# Altium integrated library Protel DOS Schematic Libraries.IntLib: 1273 symbols (part 7 of 9)
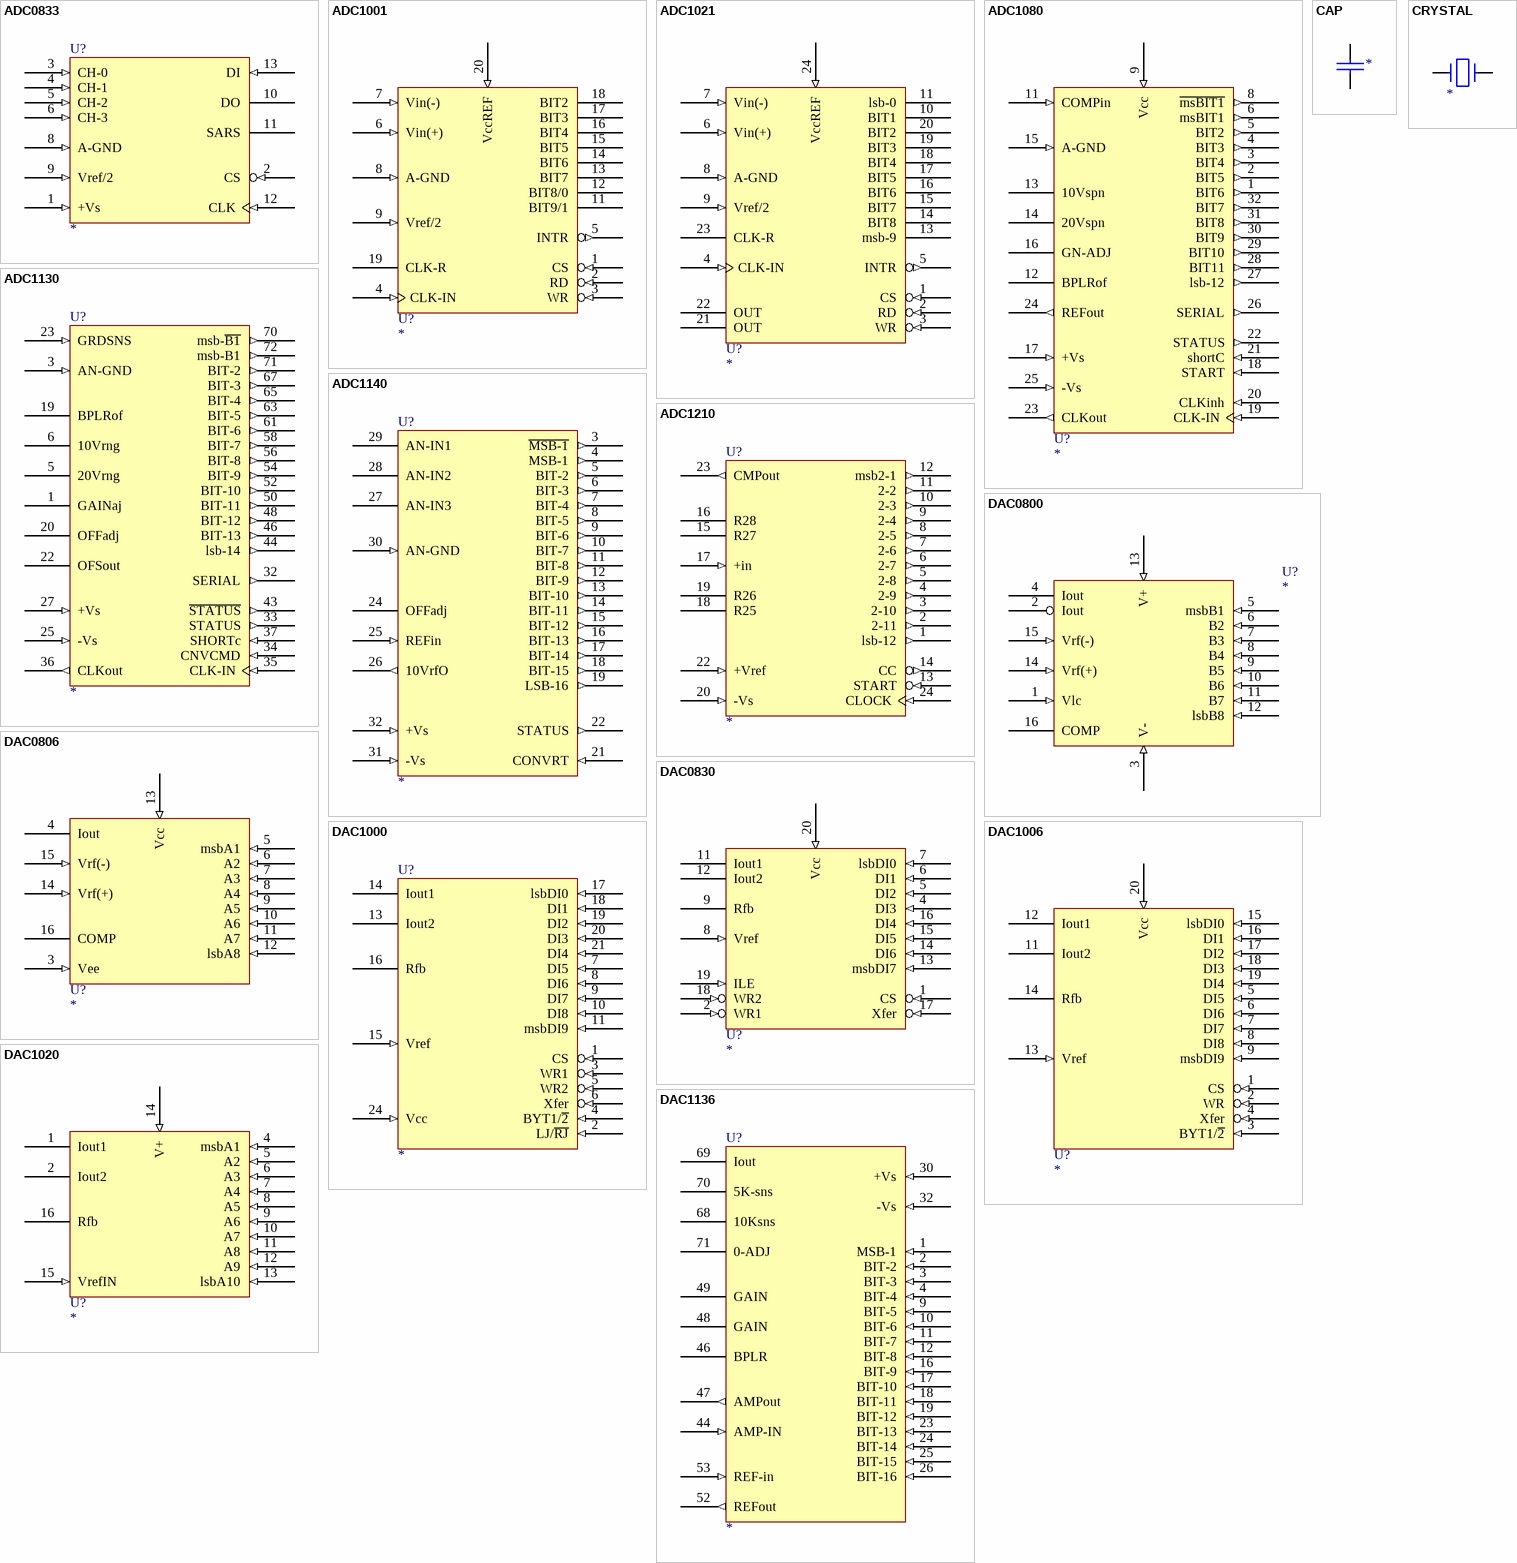
[diagram p75: symbols ADC0833 to DAC1136]

## DAC0830
designator U?
footprint DIP-20
pins: 1 CS (in), 2 WR1 (in), 3 GND (power) hidden to GND, 4 DI3 (in), 5 DI2 (in), 6 DI1 (in), 7 lsbDI0 (in), 8 Vref (in), 9 Rfb, 10 GND (power) hidden to GND, 11 Iout1, 12 Iout2, 13 msbDI7 (in), 14 DI6 (in), 15 DI5 (in), 16 DI4 (in), 17 Xfer (in), 18 WR2 (in), 19 ILE (in), 20 Vcc (in)

## DAC1000
designator U?
footprint DIP-24
pins: 1 CS (in), 2 LJ/~{RJ} (in), 3 WR1 (in), 4 BYT1/~{2} (in), 5 WR2 (in), 6 Xfer (in), 7 DI5 (in), 8 DI6 (in), 9 DI7 (in), 10 DI8 (in), 11 msbDI9 (in), 12 GND (power) hidden to GND, 13 Iout2, 14 Iout1, 15 Vref (in), 16 Rfb, 17 lsbDI0 (in), 18 DI1 (in), 19 DI2 (in), 20 DI3 (in), 21 DI4 (in), 24 Vcc (in)

## DAC1006
designator U?
footprint DIP-20
pins: 1 CS (in), 2 WR (in), 3 BYT1/~{2} (in), 4 Xfer (in), 5 DI5 (in), 6 DI6 (in), 7 DI7 (in), 8 DI8 (in), 9 msbDI9 (in), 10 GND (power) hidden to GND, 11 Iout2, 12 Iout1, 13 Vref (in), 14 Rfb, 15 lsbDI0 (in), 16 DI1 (in), 17 DI2 (in), 18 DI3 (in), 19 DI4 (in), 20 Vcc (in)

## DAC1020
designator U?
footprint DIP-16
pins: 1 Iout1, 2 Iout2, 3 GND (power) hidden to GND, 4 msbA1 (in), 5 A2 (in), 6 A3 (in), 7 A4 (in), 8 A5 (in), 9 A6 (in), 10 A7 (in), 11 A8 (in), 12 A9 (in), 13 lsbA10 (in), 14 V+ (in), 15 VrefIN (in), 16 Rfb

## DAC1136
designator U?
footprint CARD71
pins: 1 MSB-1 (in), 2 BIT-2 (in), 3 BIT-3 (in), 4 BIT-4 (in), 9 BIT-5 (in), 10 BIT-6 (in), 11 BIT-7 (in), 12 BIT-8 (in), 16 BIT-9 (in), 17 BIT-10 (in), 18 BIT-11 (in), 19 BIT-12 (in), 23 BIT-13 (in), 24 BIT-14 (in), 25 BIT-15 (in), 26 BIT-16 (in), 28 VCC (power) hidden to VCC, 30 +Vs (in), 32 -Vs (in), 34 GND (power) hidden to GND, 44 AMP-IN (in), 46 BPLR, 47 AMPout (out), 48 GAIN, 49 GAIN, 52 REFout (out), 53 REF-in (in), 68 10Ksns, 69 Iout, 70 5K-sns, 71 0-ADJ

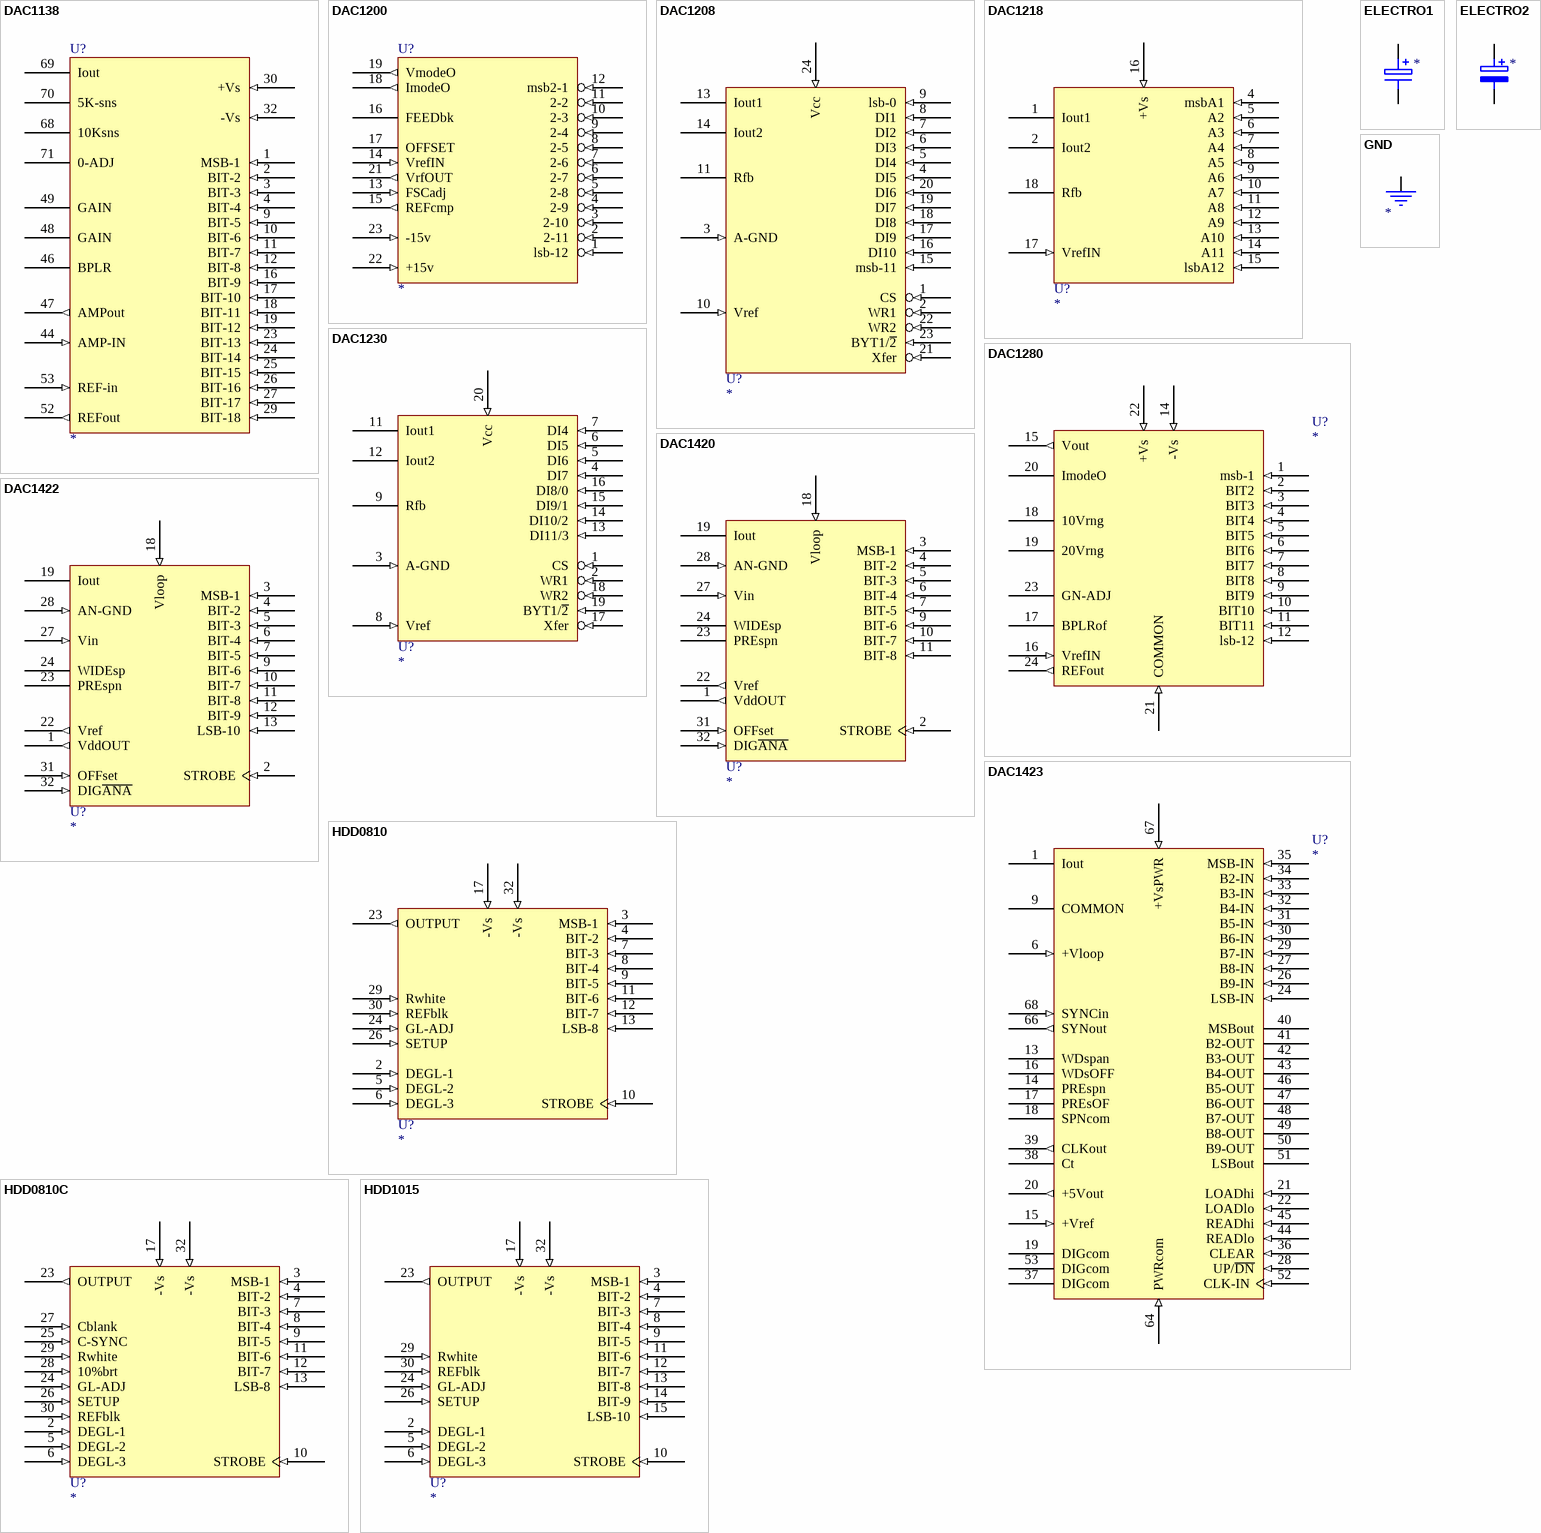
[diagram p47: symbols DAC1138 to HDD1015]

## DAC1138
designator U?
footprint CARD71
pins: 1 MSB-1 (in), 2 BIT-2 (in), 3 BIT-3 (in), 4 BIT-4 (in), 9 BIT-5 (in), 10 BIT-6 (in), 11 BIT-7 (in), 12 BIT-8 (in), 16 BIT-9 (in), 17 BIT-10 (in), 18 BIT-11 (in), 19 BIT-12 (in), 23 BIT-13 (in), 24 BIT-14 (in), 25 BIT-15 (in), 26 BIT-16 (in), 27 BIT-17 (in), 28 VCC (power) hidden to VCC, 29 BIT-18 (in), 30 +Vs (in), 32 -Vs (in), 34 GND (power) hidden to GND, 44 AMP-IN (in), 46 BPLR, 47 AMPout (out), 48 GAIN, 49 GAIN, 52 REFout (out), 53 REF-in (in), 68 10Ksns, 69 Iout, 70 5K-sns, 71 0-ADJ

## DAC1200
designator U?
footprint DIP-24
pins: 1 lsb-12 (in), 2 2-11 (in), 3 2-10 (in), 4 2-9 (in), 5 2-8 (in), 6 2-7 (in), 7 2-6 (in), 8 2-5 (in), 9 2-4 (in), 10 2-3 (in), 11 2-2 (in), 12 msb2-1 (in), 13 FSCadj (in), 14 VrefIN (in), 15 REFcmp (out), 16 FEEDbk, 17 OFFSET, 18 ImodeO (out), 19 VmodeO (out), 20 VCC (power) hidden to VCC, 21 VrfOUT (out), 22 +15v (in), 23 -15v (in), 24 GND (power) hidden to GND

## DAC1208
designator U?
footprint DIP-24
pins: 1 CS (in), 2 WR1 (in), 3 A-GND (in), 4 DI5 (in), 5 DI4 (in), 6 DI3 (in), 7 DI2 (in), 8 DI1 (in), 9 lsb-0 (in), 10 Vref (in), 11 Rfb, 12 GND (power) hidden to GND, 13 Iout1, 14 Iout2, 15 msb-11 (in), 16 DI10 (in), 17 DI9 (in), 18 DI8 (in), 19 DI7 (in), 20 DI6 (in), 21 Xfer (in), 22 WR2 (in), 23 BYT1/~{2} (in), 24 Vcc (in)

## DAC1218
designator U?
footprint DIP-18
pins: 1 Iout1, 2 Iout2, 3 GND (power) hidden to GND, 4 msbA1 (in), 5 A2 (in), 6 A3 (in), 7 A4 (in), 8 A5 (in), 9 A6 (in), 10 A7 (in), 11 A8 (in), 12 A9 (in), 13 A10 (in), 14 A11 (in), 15 lsbA12 (in), 16 +Vs (in), 17 VrefIN (in), 18 Rfb

## DAC1230
designator U?
footprint DIP-20
pins: 1 CS (in), 2 WR1 (in), 3 A-GND (in), 4 DI7 (in), 5 DI6 (in), 6 DI5 (in), 7 DI4 (in), 8 Vref (in), 9 Rfb, 10 GND (power) hidden to GND, 11 Iout1, 12 Iout2, 13 DI11/3 (in), 14 DI10/2 (in), 15 DI9/1 (in), 16 DI8/0 (in), 17 Xfer (in), 18 WR2 (in), 19 BYT1/~{2} (in), 20 Vcc (in)

## DAC1280
designator U?
footprint DIP-24
pins: 1 msb-1 (in), 2 BIT2 (in), 3 BIT3 (in), 4 BIT4 (in), 5 BIT5 (in), 6 BIT6 (in), 7 BIT7 (in), 8 BIT8 (in), 9 BIT9 (in), 10 BIT10 (in), 11 BIT11 (in), 12 lsb-12 (in), 14 -Vs (in), 15 Vout (out), 16 VrefIN (in), 17 BPLRof, 18 10Vrng, 19 20Vrng, 20 ImodeO, 21 COMMON (in), 22 +Vs (in), 23 GN-ADJ, 24 REFout (out)

## DAC1420
designator U?
footprint HYB32
pins: 1 VddOUT (out), 2 STROBE (in), 3 MSB-1 (in), 4 BIT-2 (in), 5 BIT-3 (in), 6 BIT-4 (in), 7 BIT-5 (in), 9 BIT-6 (in), 10 BIT-7 (in), 11 BIT-8 (in), 16 GND (power) hidden to GND, 18 Vloop (in), 19 Iout, 22 Vref (out), 23 PREspn, 24 WIDEsp, 27 Vin (in), 28 AN-GND (in), 31 OFFset (in), 32 DIG~{ANA} (in)

## DAC1422
designator U?
footprint HYB32
pins: 1 VddOUT (out), 2 STROBE (in), 3 MSB-1 (in), 4 BIT-2 (in), 5 BIT-3 (in), 6 BIT-4 (in), 7 BIT-5 (in), 9 BIT-6 (in), 10 BIT-7 (in), 11 BIT-8 (in), 12 BIT-9 (in), 13 LSB-10 (in), 16 GND (power) hidden to GND, 18 Vloop (in), 19 Iout, 22 Vref (out), 23 PREspn, 24 WIDEsp, 27 Vin (in), 28 AN-GND (in), 31 OFFset (in), 32 DIG~{ANA} (in)

## DAC1423
designator U?
footprint HYB72
pins: 1 Iout, 6 +Vloop (in), 9 COMMON, 13 WDspan, 14 PREspn, 15 +Vref (in), 16 WDsOFF, 17 PREsOF, 18 SPNcom, 19 DIGcom, 20 +5Vout (out), 21 LOADhi (in), 22 LOADlo (in), 24 LSB-IN (in), 26 B9-IN (in), 27 B8-IN (in), 28 UP/~{DN} (in), 29 B7-IN (in), 30 B6-IN (in), 31 B5-IN (in), 32 B4-IN (in), 33 B3-IN (in), 34 B2-IN (in), 35 MSB-IN (in), 36 CLEAR (in), 37 DIGcom, 38 Ct, 39 CLKout (out), 40 MSBout (hiz), 41 B2-OUT (hiz), 42 B3-OUT (hiz), 43 B4-OUT (hiz), 44 READlo (in), 45 READhi (in), 46 B5-OUT (hiz), 47 B6-OUT (hiz), 48 B7-OUT (hiz), 49 B8-OUT (hiz), 50 B9-OUT (hiz), 51 LSBout (hiz), 52 CLK-IN (in), 53 DIGcom, 64 PWRcom (in), 66 SYNout (out), 67 +VsPWR (in), 68 SYNCin (in)

## ELECTRO1
designator ?
pins: 1, 2

## ELECTRO2
designator ?
pins: 1, 2

## GND
designator ?
pins: 1 (power)

## HDD0810
designator U?
footprint DIP-32
pins: 1 GND (power) hidden to GND, 2 DEGL-1 (in), 3 MSB-1 (in), 4 BIT-2 (in), 5 DEGL-2 (in), 6 DEGL-3 (in), 7 BIT-3 (in), 8 BIT-4 (in), 9 BIT-5 (in), 10 STROBE (in), 11 BIT-6 (in), 12 BIT-7 (in), 13 LSB-8 (in), 16 GND (power) hidden to GND, 17 -Vs (in), 18 GND (power) hidden to GND, 19 GND (power) hidden to GND, 20 GND (power) hidden to GND, 21 GND (power) hidden to GND, 22 GND (power) hidden to GND, 23 OUTPUT (out), 24 GL-ADJ (in), 26 SETUP (in), 29 Rwhite (in), 30 REFblk (in), 31 GND (power) hidden to GND, 32 -Vs (in)

## HDD0810C
designator U?
footprint DIP-32
pins: 1 GND (power) hidden to GND, 2 DEGL-1 (in), 3 MSB-1 (in), 4 BIT-2 (in), 5 DEGL-2 (in), 6 DEGL-3 (in), 7 BIT-3 (in), 8 BIT-4 (in), 9 BIT-5 (in), 10 STROBE (in), 11 BIT-6 (in), 12 BIT-7 (in), 13 LSB-8 (in), 16 GND (power) hidden to GND, 17 -Vs (in), 18 GND (power) hidden to GND, 19 GND (power) hidden to GND, 20 GND (power) hidden to GND, 21 GND (power) hidden to GND, 22 GND (power) hidden to GND, 23 OUTPUT (out), 24 GL-ADJ (in), 25 C-SYNC (in), 26 SETUP (in), 27 Cblank (in), 28 10%brt (in), 29 Rwhite (in), 30 REFblk (in), 31 GND (power) hidden to GND, 32 -Vs (in)

## HDD1015
designator U?
footprint DIP-32
pins: 1 GND (power) hidden to GND, 2 DEGL-1 (in), 3 MSB-1 (in), 4 BIT-2 (in), 5 DEGL-2 (in), 6 DEGL-3 (in), 7 BIT-3 (in), 8 BIT-4 (in), 9 BIT-5 (in), 10 STROBE (in), 11 BIT-6 (in), 12 BIT-7 (in), 13 BIT-8 (in), 14 BIT-9 (in), 15 LSB-10 (in), 16 GND (power) hidden to GND, 17 -Vs (in), 18 GND (power) hidden to GND, 19 GND (power) hidden to GND, 20 GND (power) hidden to GND, 21 GND (power) hidden to GND, 22 GND (power) hidden to GND, 23 OUTPUT (out), 24 GL-ADJ (in), 26 SETUP (in), 29 Rwhite (in), 30 REFblk (in), 31 GND (power) hidden to GND, 32 -Vs (in)

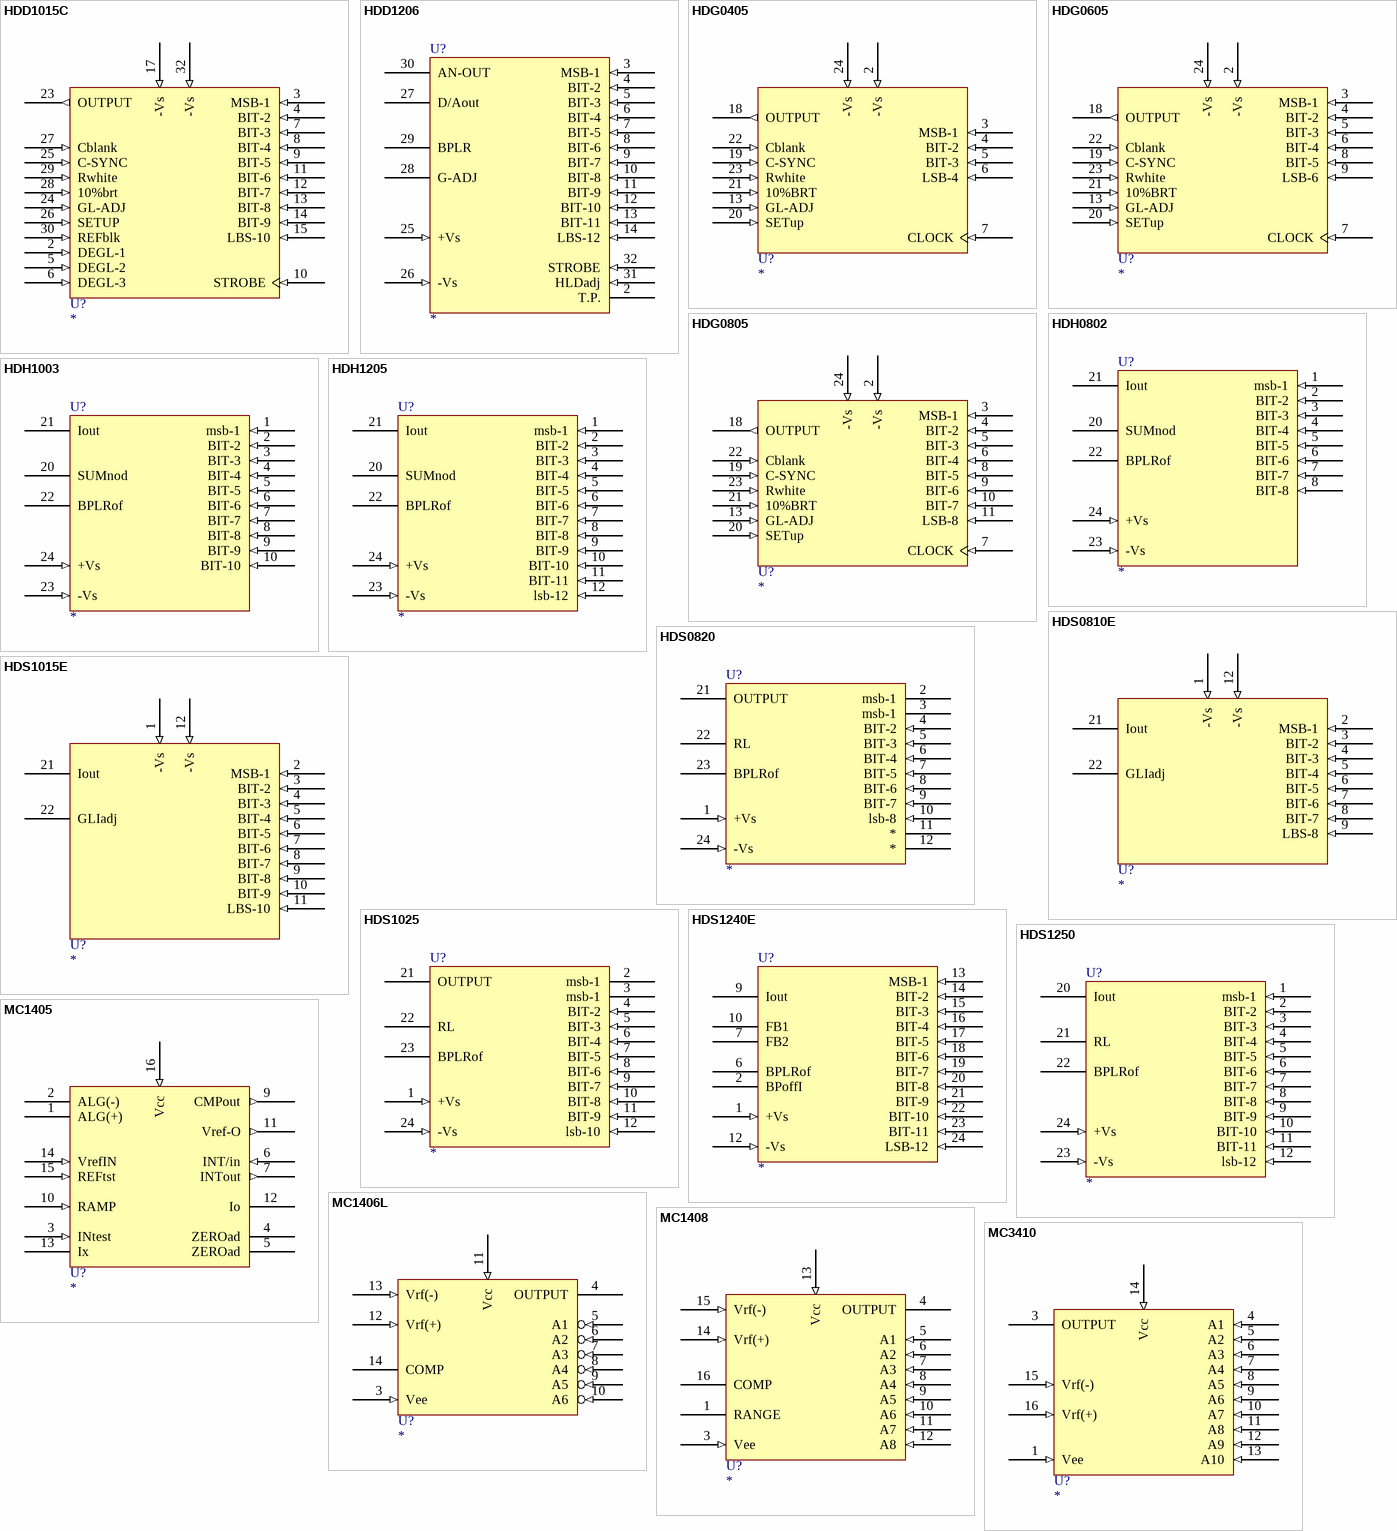
[diagram p48: symbols HDD1015C to MC3410]

## HDD1015C
designator U?
footprint DIP-32
pins: 1 GND (power) hidden to GND, 2 DEGL-1 (in), 3 MSB-1 (in), 4 BIT-2 (in), 5 DEGL-2 (in), 6 DEGL-3 (in), 7 BIT-3 (in), 8 BIT-4 (in), 9 BIT-5 (in), 10 STROBE (in), 11 BIT-6 (in), 12 BIT-7 (in), 13 BIT-8 (in), 14 BIT-9 (in), 15 LBS-10 (in), 16 GND (power) hidden to GND, 17 -Vs (in), 18 GND (power) hidden to GND, 19 GND (power) hidden to GND, 20 GND (power) hidden to GND, 21 GND (power) hidden to GND, 22 GND (power) hidden to GND, 23 OUTPUT (out), 24 GL-ADJ (in), 25 C-SYNC (in), 26 SETUP (in), 27 Cblank (in), 28 10%brt (in), 29 Rwhite (in), 30 REFblk (in), 31 GND (power) hidden to GND, 32 -Vs (in)

## HDD1206
designator U?
footprint DIP-32
pins: 1 GND (power) hidden to GND, 2 T.P., 3 MSB-1 (in), 4 BIT-2 (in), 5 BIT-3 (in), 6 BIT-4 (in), 7 BIT-5 (in), 8 BIT-6 (in), 9 BIT-7 (in), 10 BIT-8 (in), 11 BIT-9 (in), 12 BIT-10 (in), 13 BIT-11 (in), 14 LBS-12 (in), 15 VCC (power) hidden to VCC, 16 GND (power) hidden to GND, 17 GND (power) hidden to GND, 18 GND (power) hidden to GND, 19 GND (power) hidden to GND, 20 GND (power) hidden to GND, 21 GND (power) hidden to GND, 22 GND (power) hidden to GND, 23 GND (power) hidden to GND, 24 GND (power) hidden to GND, 25 +Vs (in), 26 -Vs (in), 27 D/Aout, 28 G-ADJ, 29 BPLR, 30 AN-OUT, 31 HLDadj (in), 32 STROBE (in)

## HDG0405
designator U?
footprint HY24
pins: 1 GND (power) hidden to GND, 2 -Vs (in), 3 MSB-1 (in), 4 BIT-2 (in), 5 BIT-3 (in), 6 LSB-4 (in), 7 CLOCK (in), 12 GND (power) hidden to GND, 13 GL-ADJ (in), 14 GND (power) hidden to GND, 15 GND (power) hidden to GND, 16 GND (power) hidden to GND, 17 GND (power) hidden to GND, 18 OUTPUT (out), 19 C-SYNC (in), 20 SETup (in), 21 10%BRT (in), 22 Cblank (in), 23 Rwhite (in), 24 -Vs (in)

## HDG0605
designator U?
footprint HY24
pins: 1 GND (power) hidden to GND, 2 -Vs (in), 3 MSB-1 (in), 4 BIT-2 (in), 5 BIT-3 (in), 6 BIT-4 (in), 7 CLOCK (in), 8 BIT-5 (in), 9 LSB-6 (in), 12 GND (power) hidden to GND, 13 GL-ADJ (in), 14 GND (power) hidden to GND, 15 GND (power) hidden to GND, 16 GND (power) hidden to GND, 17 GND (power) hidden to GND, 18 OUTPUT (out), 19 C-SYNC (in), 20 SETup (in), 21 10%BRT (in), 22 Cblank (in), 23 Rwhite (in), 24 -Vs (in)

## HDG0805
designator U?
footprint HY24
pins: 1 GND (power) hidden to GND, 2 -Vs (in), 3 MSB-1 (in), 4 BIT-2 (in), 5 BIT-3 (in), 6 BIT-4 (in), 7 CLOCK (in), 8 BIT-5 (in), 9 BIT-6 (in), 10 BIT-7 (in), 11 LSB-8 (in), 12 GND (power) hidden to GND, 13 GL-ADJ (in), 14 GND (power) hidden to GND, 15 GND (power) hidden to GND, 16 GND (power) hidden to GND, 17 GND (power) hidden to GND, 18 OUTPUT (out), 19 C-SYNC (in), 20 SETup (in), 21 10%BRT (in), 22 Cblank (in), 23 Rwhite (in), 24 -Vs (in)

## HDH0802
designator U?
footprint HY24
pins: 1 msb-1 (in), 2 BIT-2 (in), 3 BIT-3 (in), 4 BIT-4 (in), 5 BIT-5 (in), 6 BIT-6 (in), 7 BIT-7 (in), 8 BIT-8 (in), 9 GND (power) hidden to GND, 10 GND (power) hidden to GND, 11 GND (power) hidden to GND, 12 GND (power) hidden to GND, 13 GND (power) hidden to GND, 14 GND (power) hidden to GND, 15 GND (power) hidden to GND, 16 GND (power) hidden to GND, 17 GND (power) hidden to GND, 18 GND (power) hidden to GND, 19 GND (power) hidden to GND, 20 SUMnod, 21 Iout, 22 BPLRof, 23 -Vs (in), 24 +Vs (in)

## HDH1003
designator U?
footprint HY24
pins: 1 msb-1 (in), 2 BIT-2 (in), 3 BIT-3 (in), 4 BIT-4 (in), 5 BIT-5 (in), 6 BIT-6 (in), 7 BIT-7 (in), 8 BIT-8 (in), 9 BIT-9 (in), 10 BIT-10 (in), 11 GND (power) hidden to GND, 12 GND (power) hidden to GND, 13 GND (power) hidden to GND, 14 GND (power) hidden to GND, 15 GND (power) hidden to GND, 16 GND (power) hidden to GND, 17 GND (power) hidden to GND, 18 GND (power) hidden to GND, 19 GND (power) hidden to GND, 20 SUMnod, 21 Iout, 22 BPLRof, 23 -Vs (in), 24 +Vs (in)

## HDH1205
designator U?
footprint HY24
pins: 1 msb-1 (in), 2 BIT-2 (in), 3 BIT-3 (in), 4 BIT-4 (in), 5 BIT-5 (in), 6 BIT-6 (in), 7 BIT-7 (in), 8 BIT-8 (in), 9 BIT-9 (in), 10 BIT-10 (in), 11 BIT-11 (in), 12 lsb-12 (in), 13 GND (power) hidden to GND, 14 GND (power) hidden to GND, 15 GND (power) hidden to GND, 16 GND (power) hidden to GND, 17 GND (power) hidden to GND, 18 GND (power) hidden to GND, 19 GND (power) hidden to GND, 20 SUMnod, 21 Iout, 22 BPLRof, 23 -Vs (in), 24 +Vs (in)

## HDS0810E
designator U?
footprint HY24
pins: 1 -Vs (in), 2 MSB-1 (in), 3 BIT-2 (in), 4 BIT-3 (in), 5 BIT-4 (in), 6 BIT-5 (in), 7 BIT-6 (in), 8 BIT-7 (in), 9 LBS-8 (in), 12 -Vs (in), 13 GND (power) hidden to GND, 14 GND (power) hidden to GND, 15 GND (power) hidden to GND, 16 GND (power) hidden to GND, 17 GND (power) hidden to GND, 18 GND (power) hidden to GND, 19 GND (power) hidden to GND, 20 GND (power) hidden to GND, 21 Iout, 22 GLIadj, 23 GND (power) hidden to GND, 24 GND (power) hidden to GND

## HDS0820
designator U?
footprint HY24
pins: 1 +Vs (in), 2 msb-1, 3 msb-1, 4 BIT-2 (in), 5 BIT-3 (in), 6 BIT-4 (in), 7 BIT-5 (in), 8 BIT-6 (in), 9 BIT-7 (in), 10 lsb-8 (in), 11 *, 12 *, 13 GND (power) hidden to GND, 14 GND (power) hidden to GND, 15 GND (power) hidden to GND, 16 GND (power) hidden to GND, 17 GND (power) hidden to GND, 18 GND (power) hidden to GND, 19 GND (power) hidden to GND, 20 GND (power) hidden to GND, 21 OUTPUT, 22 RL, 23 BPLRof, 24 -Vs (in)

## HDS1015E
designator U?
footprint HY24
pins: 1 -Vs (in), 2 MSB-1 (in), 3 BIT-2 (in), 4 BIT-3 (in), 5 BIT-4 (in), 6 BIT-5 (in), 7 BIT-6 (in), 8 BIT-7 (in), 9 BIT-8 (in), 10 BIT-9 (in), 11 LBS-10 (in), 12 -Vs (in), 13 GND (power) hidden to GND, 14 GND (power) hidden to GND, 15 GND (power) hidden to GND, 16 GND (power) hidden to GND, 17 GND (power) hidden to GND, 18 GND (power) hidden to GND, 19 GND (power) hidden to GND, 20 GND (power) hidden to GND, 21 Iout, 22 GLIadj, 23 GND (power) hidden to GND, 24 GND (power) hidden to GND

## HDS1025
designator U?
footprint HY24
pins: 1 +Vs (in), 2 msb-1, 3 msb-1, 4 BIT-2 (in), 5 BIT-3 (in), 6 BIT-4 (in), 7 BIT-5 (in), 8 BIT-6 (in), 9 BIT-7 (in), 10 BIT-8 (in), 11 BIT-9 (in), 12 lsb-10 (in), 13 GND (power) hidden to GND, 14 GND (power) hidden to GND, 15 GND (power) hidden to GND, 16 GND (power) hidden to GND, 17 GND (power) hidden to GND, 18 GND (power) hidden to GND, 19 GND (power) hidden to GND, 20 GND (power) hidden to GND, 21 OUTPUT, 22 RL, 23 BPLRof, 24 -Vs (in)

## HDS1240E
designator U?
footprint HY24
pins: 1 +Vs (in), 2 BPoffI, 3 GND (power) hidden to GND, 4 GND (power) hidden to GND, 5 GND (power) hidden to GND, 6 BPLRof, 7 FB2, 9 Iout, 10 FB1, 12 -Vs (in), 13 MSB-1 (in), 14 BIT-2 (in), 15 BIT-3 (in), 16 BIT-4 (in), 17 BIT-5 (in), 18 BIT-6 (in), 19 BIT-7 (in), 20 BIT-8 (in), 21 BIT-9 (in), 22 BIT-10 (in), 23 BIT-11 (in), 24 LSB-12 (in)

## HDS1250
designator U?
footprint HY24
pins: 1 msb-1 (in), 2 BIT-2 (in), 3 BIT-3 (in), 4 BIT-4 (in), 5 BIT-5 (in), 6 BIT-6 (in), 7 BIT-7 (in), 8 BIT-8 (in), 9 BIT-9 (in), 10 BIT-10 (in), 11 BIT-11 (in), 12 lsb-12 (in), 13 GND (power) hidden to GND, 14 GND (power) hidden to GND, 15 GND (power) hidden to GND, 16 GND (power) hidden to GND, 17 GND (power) hidden to GND, 18 GND (power) hidden to GND, 19 GND (power) hidden to GND, 20 Iout, 21 RL, 22 BPLRof, 23 -Vs (in), 24 +Vs (in)

## MC1405
designator U?
footprint DIP-16
pins: 1 ALG(+), 2 ALG(-), 3 INtest (in), 4 ZEROad, 5 ZEROad, 6 INT/in (in), 7 INTout (out), 8 GND (power) hidden to GND, 9 CMPout (out), 10 RAMP (in), 11 Vref-O (out), 12 Io, 13 Ix, 14 VrefIN (in), 15 REFtst (in), 16 Vcc (in)

## MC1406L
designator U?
footprint DIP-14
pins: 2 GND (power) hidden to GND, 3 Vee (in), 4 OUTPUT, 5 A1 (in), 6 A2 (in), 7 A3 (in), 8 A4 (in), 9 A5 (in), 10 A6 (in), 11 Vcc (in), 12 Vrf(+) (in), 13 Vrf(-) (in), 14 COMP

## MC1408
designator U?
footprint DIP-16
pins: 1 RANGE, 2 GND (power) hidden to GND, 3 Vee (in), 4 OUTPUT, 5 A1 (in), 6 A2 (in), 7 A3 (in), 8 A4 (in), 9 A5 (in), 10 A6 (in), 11 A7 (in), 12 A8 (in), 13 Vcc (in), 14 Vrf(+) (in), 15 Vrf(-) (in), 16 COMP

## MC3410
designator U?
footprint DIP-16
pins: 1 Vee (in), 2 GND (power) hidden to GND, 3 OUTPUT, 4 A1 (in), 5 A2 (in), 6 A3 (in), 7 A4 (in), 8 A5 (in), 9 A6 (in), 10 A7 (in), 11 A8 (in), 12 A9 (in), 13 A10 (in), 14 Vcc (in), 15 Vrf(-) (in), 16 Vrf(+) (in)

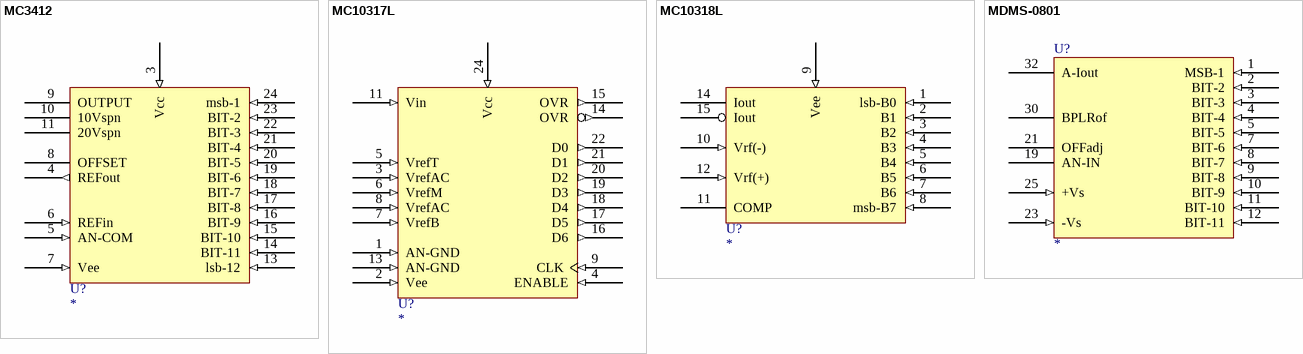
[diagram p49: symbols MC3412 to MDMS-0801]

## MC3412
designator U?
footprint DIP-24
pins: 3 Vcc (in), 4 REFout (out), 5 AN-COM (in), 6 REFin (in), 7 Vee (in), 8 OFFSET, 9 OUTPUT, 10 10Vspn, 11 20Vspn, 12 GND (power) hidden to GND, 13 lsb-12 (in), 14 BIT-11 (in), 15 BIT-10 (in), 16 BIT-9 (in), 17 BIT-8 (in), 18 BIT-7 (in), 19 BIT-6 (in), 20 BIT-5 (in), 21 BIT-4 (in), 22 BIT-3 (in), 23 BIT-2 (in), 24 msb-1 (in)

## MC10317L
designator U?
footprint DIP-24
pins: 1 AN-GND (in), 2 Vee (in), 3 VrefAC (in), 4 ENABLE (in), 5 VrefT (in), 6 VrefM (in), 7 VrefB (in), 8 VrefAC (in), 9 CLK (in), 11 Vin (in), 13 AN-GND (in), 14 OVR (out), 15 OVR (out), 16 D6 (out), 17 D5 (out), 18 D4 (out), 19 D3 (out), 20 D2 (out), 21 D1 (out), 22 D0 (out), 23 GND (power) hidden to GND, 24 Vcc (in)

## MC10318L
designator U?
footprint DIP-16
pins: 1 lsb-B0 (in), 2 B1 (in), 3 B2 (in), 4 B3 (in), 5 B4 (in), 6 B5 (in), 7 B6 (in), 8 msb-B7 (in), 9 Vee (in), 10 Vrf(-) (in), 11 COMP, 12 Vrf(+) (in), 14 Iout, 15 Iout, 16 GND (power) hidden to GND

## MDMS-0801
designator U?
footprint HYB32
pins: 1 MSB-1 (in), 2 BIT-2 (in), 3 BIT-3 (in), 4 BIT-4 (in), 5 BIT-5 (in), 7 BIT-6 (in), 8 BIT-7 (in), 9 BIT-8 (in), 10 BIT-9 (in), 11 BIT-10 (in), 12 BIT-11 (in), 19 AN-IN, 21 OFFadj, 23 -Vs (in), 25 +Vs (in), 28 GND (power) hidden to GND, 30 BPLRof, 32 A-Iout


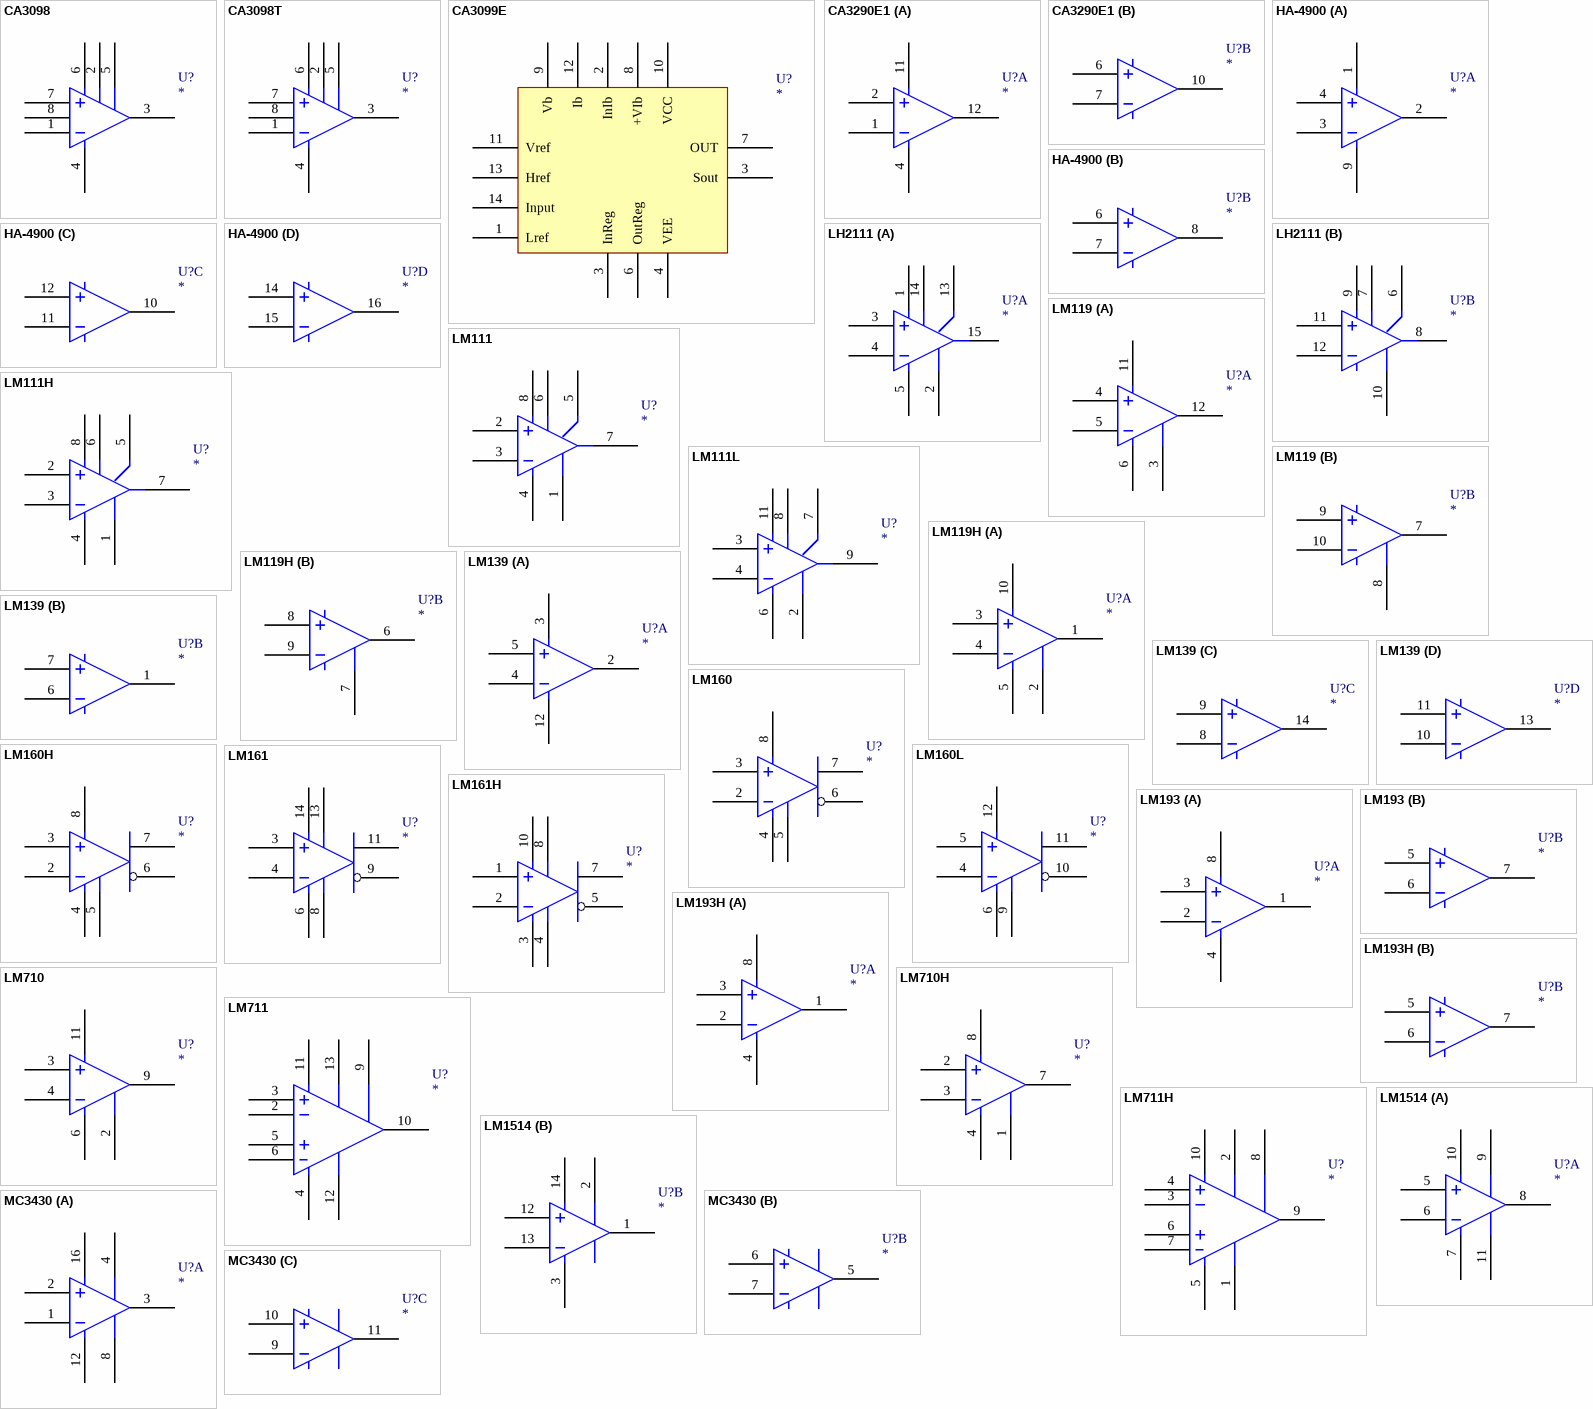
[diagram p50: symbols CA3098 to MC3430]

## CA3098
designator U?
footprint DIP-8
pins: 1, 2, 3, 4, 5, 6, 7, 8

## CA3098T
designator U?
footprint METAL8
pins: 1, 2, 3, 4, 5, 6, 7, 8

## CA3099E
designator U?
footprint DIP-14
pins: 1 Lref, 2 InIb, 3 Sout, 3 InReg, 4 VEE, 6 OutReg, 7 OUT, 8 +VIb, 9 Vb, 10 VCC, 11 Vref, 12 Ib, 13 Href, 14 Input

## CA3290E1
designator U?
footprint DIP-14
part A pins: 1, 2, 4, 11, 12
part B pins: 6, 7, 10

## HA-4900
designator U?
footprint DIP-16
part A pins: 1, 2, 3, 4, 9
part B pins: 6, 7, 8
part C pins: 10, 11, 12
part D pins: 14, 15, 16

## LH2111
designator U?
footprint DIP-16
part A pins: 1, 2, 3, 4, 5, 13, 14, 15
part B pins: 6, 7, 8, 9, 10, 11, 12

## LM111
designator U?
footprint DIP-8
pins: 1, 2, 3, 4, 5, 6, 7, 8

## LM111H
designator U?
footprint METAL8
pins: 1, 2, 3, 4, 5, 6, 7, 8

## LM111L
designator U?
footprint DIP-14
pins: 2, 3, 4, 6, 7, 8, 9, 11

## LM119
designator U?
footprint DIP-14
part A pins: 3, 4, 5, 6, 11, 12
part B pins: 7, 8, 9, 10

## LM119H
designator U?
footprint METAL10
part A pins: 1, 2, 3, 4, 5, 10
part B pins: 6, 7, 8, 9

## LM139
designator U?
footprint DIP-14
part A pins: 2, 3, 4, 5, 12
part B pins: 1, 6, 7
part C pins: 8, 9, 14
part D pins: 10, 11, 13

## LM160
designator U?
footprint DIP-8
pins: 2, 3, 4, 5, 6, 7, 8

## LM160H
designator U?
footprint METAL8
pins: 2, 3, 4, 5, 6, 7, 8

## LM160L
designator U?
footprint DIP-14
pins: 4, 5, 6, 9, 10, 11, 12

## LM161
designator U?
footprint DIP-14
pins: 3, 4, 6, 8, 9, 11, 13, 14

## LM161H
designator U?
footprint METAL10
pins: 1, 2, 3, 4, 5, 7, 8, 10

## LM193
designator U?
footprint DIP-8
part A pins: 1, 2, 3, 4, 8
part B pins: 5, 6, 7

## LM193H
designator U?
footprint METAL10
part A pins: 1, 2, 3, 4, 8
part B pins: 5, 6, 7

## LM710
designator U?
footprint DIP-14
pins: 2, 3, 4, 6, 9, 11

## LM710H
designator U?
footprint METAL8
pins: 1, 2, 3, 4, 7, 8

## LM711
designator U?
footprint DIP-14
pins: 2, 3, 4, 5, 6, 9, 10, 11, 12, 13

## LM711H
designator U?
footprint METAL10
pins: 1, 2, 3, 4, 5, 6, 7, 8, 9, 10

## LM1514
designator U?
footprint DIP-14
part A pins: 5, 6, 7, 8, 9, 10, 11
part B pins: 1, 2, 3, 12, 13, 14

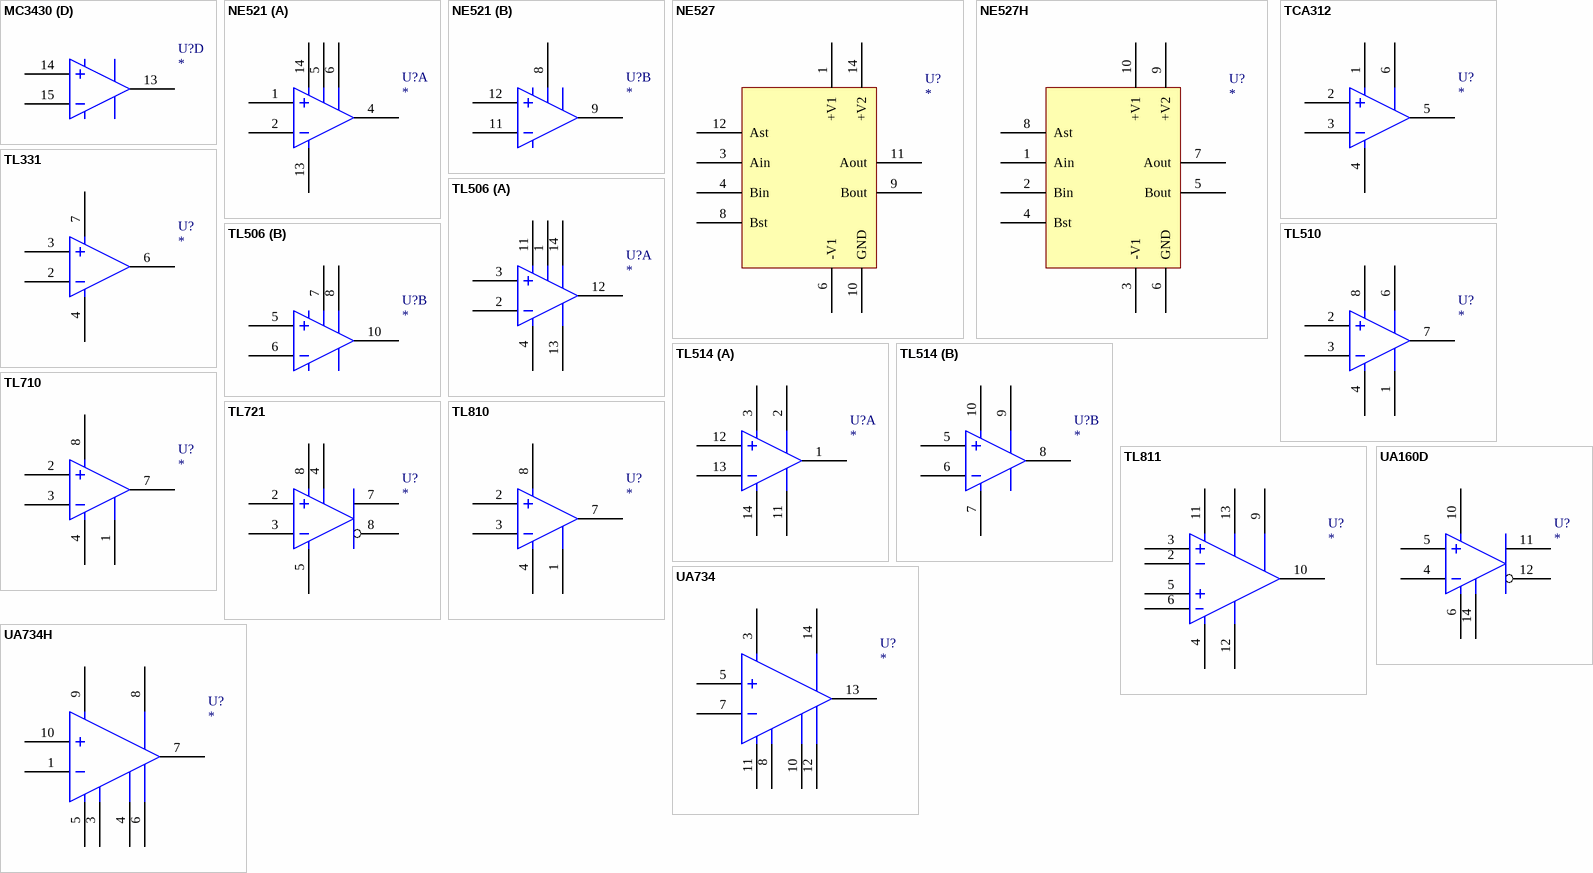
[diagram p51: symbols MC3430 to UA734H]

## MC3430
designator U?
footprint DIP-16
part A pins: 1, 2, 3, 4, 8, 12, 16
part B pins: 5, 6, 7
part C pins: 9, 10, 11
part D pins: 13, 14, 15

## NE521
designator U?
footprint DIP-14
part A pins: 1, 2, 4, 5, 6, 13, 14
part B pins: 8, 9, 11, 12

## NE527
designator U?
footprint DIP-14
pins: 1 +V1, 3 Ain, 4 Bin, 6 -V1, 8 Bst, 9 Bout, 10 GND, 11 Aout, 12 Ast, 14 +V2

## NE527H
designator U?
footprint METAL10
pins: 1 Ain, 2 Bin, 3 -V1, 4 Bst, 5 Bout, 6 GND, 7 Aout, 8 Ast, 9 +V2, 10 +V1

## TCA312
designator U?
footprint DIP-6
pins: 1, 2, 3, 4, 5, 6

## TL331
designator U?
footprint DIP-8
pins: 2, 3, 4, 6, 7

## TL506
designator U?
footprint DIP-14
part A pins: 1, 2, 3, 4, 11, 12, 13, 14
part B pins: 5, 6, 7, 8, 10

## TL510
designator U?
footprint DIP-8
pins: 1, 2, 3, 4, 6, 7, 8

## TL514
designator U?
footprint DIP-14
part A pins: 1, 2, 3, 11, 12, 13, 14
part B pins: 5, 6, 7, 8, 9, 10

## TL710
designator U?
footprint DIP-8
pins: 1, 2, 3, 4, 7, 8

## TL721
designator U?
footprint DIP-8
pins: 2, 3, 4, 5, 7, 8, 8

## TL810
designator U?
footprint DIP-8
pins: 1, 2, 3, 4, 7, 8

## TL811
designator U?
footprint DIP-14
pins: 2, 3, 4, 5, 6, 9, 10, 11, 12, 13

## UA160D
designator U?
footprint DIP-14
pins: 4, 5, 6, 10, 11, 12, 14

## UA734
designator U?
footprint DIP-14
pins: 3, 5, 7, 8, 10, 11, 12, 13, 14

## UA734H
designator U?
footprint METAL10
pins: 1, 3, 4, 5, 6, 7, 8, 9, 10


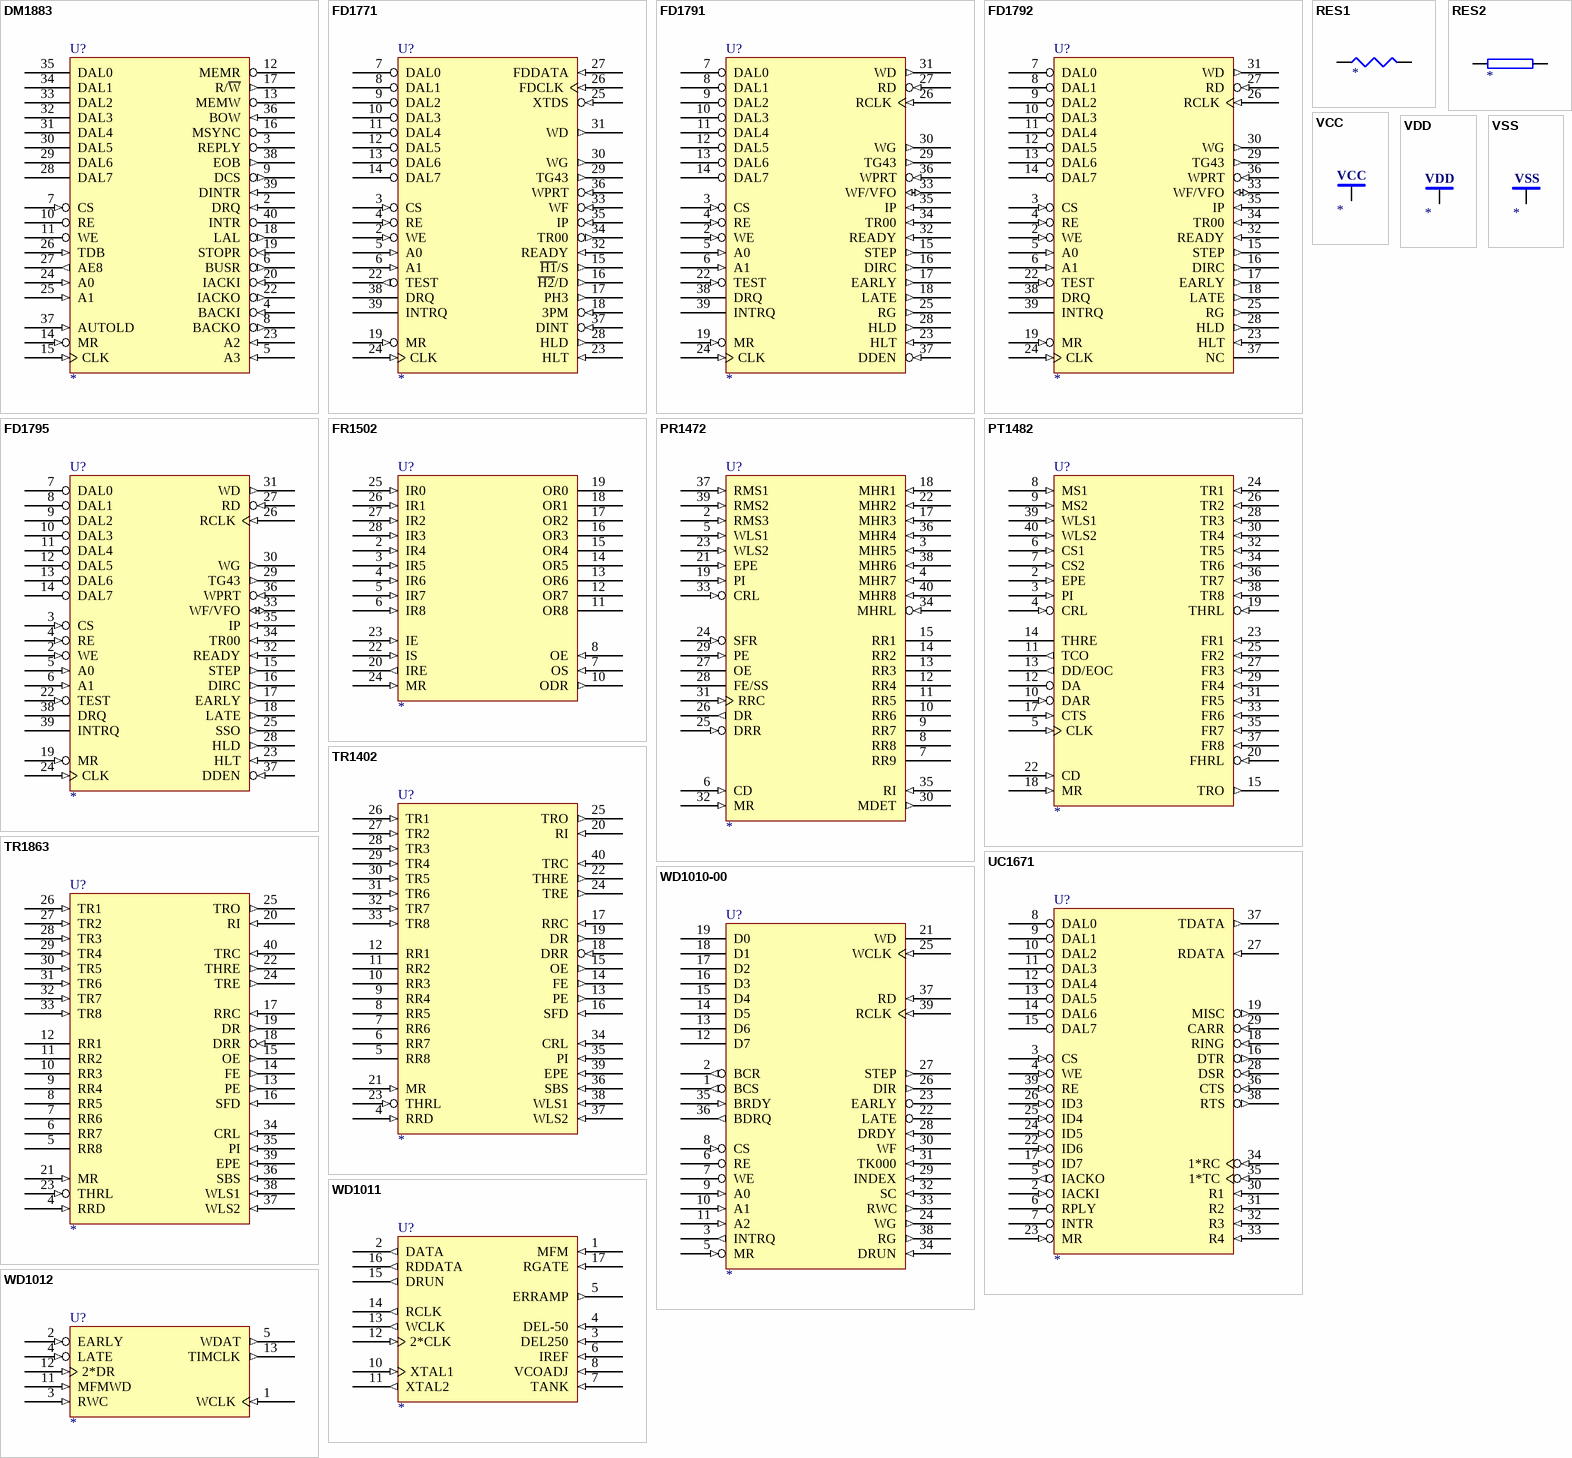
[diagram p52: symbols DM1883 to WD1012]

## DM1883
designator U?
footprint DIP-40
pins: 1 GND (power) hidden to GND, 2 DRQ (in), 3 REPLY (oc), 4 BACKI (in), 5 A3 (in), 6 BUSR (out), 7 CS (in), 8 BACKO (out), 9 DCS (out), 10 RE (oc), 11 WE (oc), 12 MEMR (oc), 13 MEMW (oc), 14 MR (in), 15 CLK (in), 16 MSYNC (oc), 17 R/~{W} (out), 18 LAL (out), 19 STOPR (in), 20 IACKI (in), 21 VCC (power) hidden to VCC, 22 IACKO (out), 23 A2 (in), 24 A0 (in), 25 A1 (in), 26 TDB (in), 27 AE8 (out), 28 DAL7 (hiz), 29 DAL6 (hiz), 30 DAL5 (hiz), 31 DAL4 (hiz), 32 DAL3 (hiz), 33 DAL2 (hiz), 34 DAL1 (hiz), 35 DAL0 (hiz), 36 BOW (in), 37 AUTOLD (in), 38 EOB (out), 39 DINTR (in), 40 INTR (oc)

## FD1771
designator U?
footprint DIP-40
pins: 1 -5 (power) hidden to -5, 2 WE (in), 3 CS (in), 4 RE (in), 5 A0 (in), 6 A1 (in), 7 DAL0 (hiz), 8 DAL1 (hiz), 9 DAL2 (hiz), 10 DAL3 (hiz), 11 DAL4 (hiz), 12 DAL5 (hiz), 13 DAL6 (hiz), 14 DAL7 (hiz), 15 ~{H1}/S (out), 16 ~{H2}/D (out), 17 PH3 (out), 18 3PM (in), 19 MR (in), 20 GND (power) hidden to GND, 21 VCC (power) hidden to VCC, 22 TEST (out), 23 HLT (in), 24 CLK (in), 25 XTDS (in), 26 FDCLK (in), 27 FDDATA (in), 28 HLD (out), 29 TG43 (out), 30 WG (out), 31 WD (out), 32 READY (in), 33 WF (in), 34 TR00 (out), 35 IP (in), 36 WPRT (in), 37 DINT (in), 38 DRQ (oc), 39 INTRQ (oc), 40 +12 (power) hidden to +12

## FD1791
designator U?
footprint DIP-40
pins: 2 WE (in), 3 CS (in), 4 RE (in), 5 A0 (in), 6 A1 (in), 7 DAL0 (hiz), 8 DAL1 (hiz), 9 DAL2 (hiz), 10 DAL3 (hiz), 11 DAL4 (hiz), 12 DAL5 (hiz), 13 DAL6 (hiz), 14 DAL7 (hiz), 15 STEP (out), 16 DIRC (out), 17 EARLY (out), 18 LATE (out), 19 MR (in), 20 GND (power) hidden to GND, 21 VCC (power) hidden to VCC, 22 TEST (in), 23 HLT (in), 24 CLK (in), 25 RG (out), 26 RCLK (in), 27 RD (in), 28 HLD (out), 29 TG43 (out), 30 WG (out), 31 WD (out), 32 READY (in), 33 WF/VFO (io), 34 TR00 (in), 35 IP (in), 36 WPRT (in), 37 DDEN (in), 38 DRQ (oc), 39 INTRQ (oc), 40 +12 (power) hidden to +12

## FD1792
designator U?
footprint DIP-40
pins: 2 WE (in), 3 CS (in), 4 RE (in), 5 A0 (in), 6 A1 (in), 7 DAL0 (hiz), 8 DAL1 (hiz), 9 DAL2 (hiz), 10 DAL3 (hiz), 11 DAL4 (hiz), 12 DAL5 (hiz), 13 DAL6 (hiz), 14 DAL7 (hiz), 15 STEP (out), 16 DIRC (out), 17 EARLY (out), 18 LATE (out), 19 MR (in), 20 GND (power) hidden to GND, 21 VCC (power) hidden to VCC, 22 TEST (in), 23 HLT (in), 24 CLK (in), 25 RG (out), 26 RCLK (in), 27 RD (in), 28 HLD (out), 29 TG43 (out), 30 WG (out), 31 WD (out), 32 READY (in), 33 WF/VFO (io), 34 TR00 (in), 35 IP (in), 36 WPRT (in), 37 NC, 38 DRQ (oc), 39 INTRQ (oc), 40 +12 (power) hidden to +12

## FD1795
designator U?
footprint DIP-40
pins: 2 WE (in), 3 CS (in), 4 RE (in), 5 A0 (in), 6 A1 (in), 7 DAL0 (hiz), 8 DAL1 (hiz), 9 DAL2 (hiz), 10 DAL3 (hiz), 11 DAL4 (hiz), 12 DAL5 (hiz), 13 DAL6 (hiz), 14 DAL7 (hiz), 15 STEP (out), 16 DIRC (out), 17 EARLY (out), 18 LATE (out), 19 MR (in), 20 GND (power) hidden to GND, 21 VCC (power) hidden to VCC, 22 TEST (in), 23 HLT (in), 24 CLK (in), 25 SSO (out), 26 RCLK (in), 27 RD (in), 28 HLD (out), 29 TG43 (out), 30 WG (out), 31 WD (out), 32 READY (in), 33 WF/VFO (io), 34 TR00 (in), 35 IP (in), 36 WPRT (in), 37 DDEN (in), 38 DRQ (oc), 39 INTRQ (oc), 40 +12 (power) hidden to +12

## FR1502
designator U?
footprint DIP-28
pins: 1 VCC (power) hidden to VCC, 2 IR4 (in), 3 IR5 (in), 4 IR6 (in), 5 IR7 (in), 6 IR8 (in), 7 OS (in), 8 OE (in), 9 +12 (power) hidden to +12, 10 ODR (out), 11 OR8 (hiz), 12 OR7 (hiz), 13 OR6 (hiz), 14 OR5 (hiz), 15 OR4 (hiz), 16 OR3 (hiz), 17 OR2 (hiz), 18 OR1 (hiz), 19 OR0 (hiz), 20 IRE (out), 21 GND (power) hidden to GND, 22 IS (in), 23 IE (in), 24 MR (in), 25 IR0 (in), 26 IR1 (in), 27 IR2 (in), 28 IR3 (in)

## PR1472
designator U?
footprint DIP-40
pins: 1 VCC (power) hidden to VCC, 2 RMS3 (in), 3 MHR5 (in), 4 MHR7 (in), 5 WLS1 (in), 6 CD (in), 7 RR9 (hiz), 8 RR8 (hiz), 9 RR7 (hiz), 10 RR6 (hiz), 11 RR5 (hiz), 12 RR4 (hiz), 13 RR3 (hiz), 14 RR2 (hiz), 15 RR1 (hiz), 16 +12 (power) hidden to +12, 17 MHR3 (in), 18 MHR1 (in), 19 PI (in), 20 GND (power) hidden to GND, 21 EPE (in), 22 MHR2 (in), 23 WLS2 (in), 24 SFR (in), 25 DRR (in), 26 DR (out), 27 OE (hiz), 28 FE/SS (hiz), 29 PE (in), 30 MDET (out), 31 RRC (in), 32 MR (in), 33 CRL (in), 34 MHRL (in), 35 RI (in), 36 MHR4 (in), 37 RMS1 (in), 38 MHR6 (in), 39 RMS2 (in), 40 MHR8 (in)

## PT1482
designator U?
footprint DIP-40
pins: 1 VCC (power) hidden to VCC, 2 EPE (in), 3 PI (in), 4 CRL (in), 5 CLK (in), 6 CS1 (in), 7 CS2 (in), 8 MS1 (in), 9 MS2 (in), 10 DAR (in), 11 TCO (out), 12 DA (hiz), 13 DD/EOC (out), 14 THRE (hiz), 15 TRO (out), 16 +12 (power) hidden to +12, 17 CTS (in), 18 MR (in), 19 THRL (in), 20 FHRL (in), 21 GND (power) hidden to GND, 22 CD (in), 23 FR1 (in), 24 TR1 (in), 25 FR2 (in), 26 TR2 (in), 27 FR3 (in), 28 TR3 (in), 29 FR4 (in), 30 TR4 (in), 31 FR5 (in), 32 TR5 (in), 33 FR6 (in), 34 TR6 (in), 35 FR7 (in), 36 TR7 (in), 37 FR8 (in), 38 TR8 (in), 39 WLS1 (in), 40 WLS2 (in)

## RES1
designator ?
pins: 1, 2

## RES2
designator ?
pins: 1, 2

## TR1402
designator U?
footprint DIP-40
pins: 1 VCC (power) hidden to VCC, 2 +12 (power) hidden to +12, 3 GND (power) hidden to GND, 4 RRD (in), 5 RR8 (hiz), 6 RR7 (hiz), 7 RR6 (hiz), 8 RR5 (hiz), 9 RR4 (hiz), 10 RR3 (hiz), 11 RR2 (hiz), 12 RR1 (hiz), 13 PE (out), 14 FE (out), 15 OE (out), 16 SFD (in), 17 RRC (in), 18 DRR (in), 19 DR (out), 20 RI (in), 21 MR (in), 22 THRE (out), 23 THRL (in), 24 TRE (out), 25 TRO (out), 26 TR1 (in), 27 TR2 (in), 28 TR3 (in), 29 TR4 (in), 30 TR5 (in), 31 TR6 (in), 32 TR7 (in), 33 TR8 (in), 34 CRL (in), 35 PI (in), 36 SBS (in), 37 WLS2 (in), 38 WLS1 (in), 39 EPE (in), 40 TRC (in)

## TR1863
designator U?
footprint DIP-40
pins: 1 VCC (power) hidden to VCC, 3 GND (power) hidden to GND, 4 RRD (in), 5 RR8 (hiz), 6 RR7 (hiz), 7 RR6 (hiz), 8 RR5 (hiz), 9 RR4 (hiz), 10 RR3 (hiz), 11 RR2 (hiz), 12 RR1 (hiz), 13 PE (out), 14 FE (out), 15 OE (out), 16 SFD (in), 17 RRC (in), 18 DRR (in), 19 DR (out), 20 RI (in), 21 MR (in), 22 THRE (out), 23 THRL (in), 24 TRE (out), 25 TRO (out), 26 TR1 (in), 27 TR2 (in), 28 TR3 (in), 29 TR4 (in), 30 TR5 (in), 31 TR6 (in), 32 TR7 (in), 33 TR8 (in), 34 CRL (in), 35 PI (in), 36 SBS (in), 37 WLS2 (in), 38 WLS1 (in), 39 EPE (in), 40 TRC (in)

## UC1671
designator U?
footprint DIP-40
pins: 1 -5 (power) hidden to -5, 2 IACKI (in), 3 CS (in), 4 WE (in), 5 IACKO (out), 6 RPLY (oc), 7 INTR (oc), 8 DAL0 (hiz), 9 DAL1 (hiz), 10 DAL2 (hiz), 11 DAL3 (hiz), 12 DAL4 (hiz), 13 DAL5 (hiz), 14 DAL6 (hiz), 15 DAL7 (hiz), 16 DTR (out), 17 ID7 (in), 18 RING (in), 19 MISC (out), 20 GND (power) hidden to GND, 21 VCC (power) hidden to VCC, 22 ID6 (in), 23 MR (in), 24 ID5 (in), 25 ID4 (in), 26 ID3 (in), 27 RDATA (in), 28 DSR (in), 29 CARR (in), 30 R1 (in), 31 R2 (in), 32 R3 (in), 33 R4 (in), 34 1*RC (in), 35 1*TC (in), 36 CTS (in), 37 TDATA (out), 38 RTS (out), 39 RE (in), 40 +12 (power) hidden to +12

## VCC
designator ?
pins: 1 (power)

## VDD
designator ?
pins: 1 (power)

## VSS
designator ?
pins: 1 (power)

## WD1010-00
designator U?
footprint DIP-40
pins: 1 BCS (out), 2 BCR (out), 3 INTRQ (out), 5 MR (in), 6 RE (hiz), 7 WE (hiz), 8 CS (in), 9 A0 (in), 10 A1 (in), 11 A2 (in), 12 D7 (hiz), 13 D6 (hiz), 14 D5 (hiz), 15 D4 (hiz), 16 D3 (hiz), 17 D2 (hiz), 18 D1 (hiz), 19 D0 (hiz), 20 GND (power) hidden to GND, 21 WD (oc), 22 LATE (oc), 23 EARLY (oc), 24 WG (out), 25 WCLK (in), 26 DIR (out), 27 STEP (out), 28 DRDY (in), 29 INDEX (in), 30 WF (in), 31 TK000 (in), 32 SC (in), 33 RWC (out), 34 DRUN (in), 35 BRDY (in), 36 BDRQ (out), 37 RD (in), 38 RG (out), 39 RCLK (in), 40 VCC (power) hidden to VCC

## WD1011
designator U?
footprint DIP-18
pins: 1 MFM (in), 2 DATA (out), 3 DEL250 (in), 4 DEL-50 (in), 5 ERRAMP (out), 6 IREF (in), 7 TANK (in), 8 VCOADJ (in), 9 GND (power) hidden to GND, 10 XTAL1 (in), 11 XTAL2 (out), 12 2*CLK (in), 13 WCLK (out), 14 RCLK (out), 15 DRUN (out), 16 RDDATA (out), 17 RGATE (in), 18 VCC (power) hidden to VCC

## WD1012
designator U?
footprint DIP-14
pins: 1 WCLK (in), 2 EARLY (in), 3 RWC (in), 4 LATE (in), 5 WDAT (out), 7 GND (power) hidden to GND, 11 MFMWD (in), 12 2*DR (in), 13 TIMCLK (out), 14 VCC (power) hidden to VCC

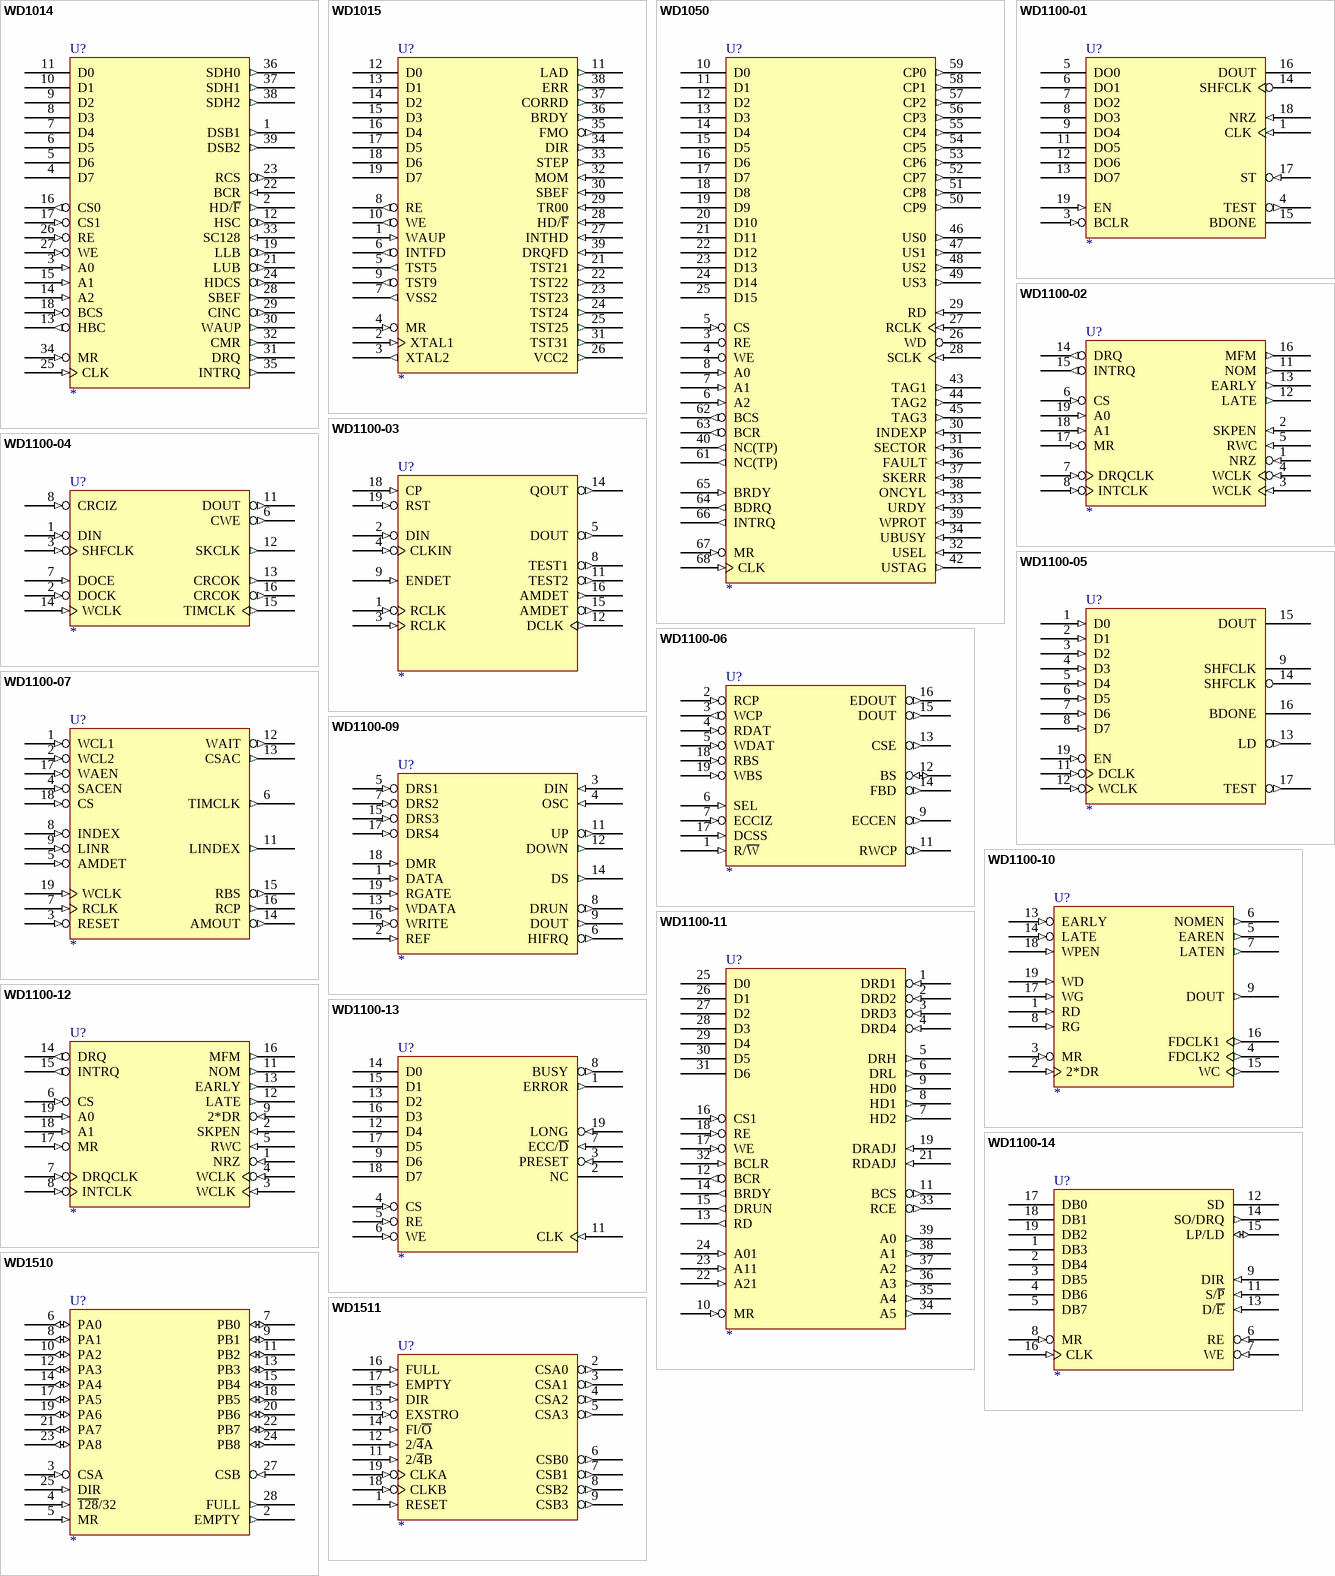
[diagram p53: symbols WD1014 to WD1511]

## WD1014
designator U?
footprint DIP-40
pins: 1 DSB1 (out), 2 HD/~{F} (out), 3 A0 (in), 4 D7 (hiz), 5 D6 (hiz), 6 D5 (hiz), 7 D4 (hiz), 8 D3 (hiz), 9 D2 (hiz), 10 D1 (hiz), 11 D0 (hiz), 12 HSC (out), 13 HBC (out), 14 A2 (in), 15 A1 (in), 16 CS0 (out), 17 CS1 (in), 18 BCS (in), 19 LLB (out), 20 GND (power) hidden to GND, 21 LUB (out), 22 BCR (in), 23 RCS (out), 24 HDCS (out), 25 CLK (in), 26 RE (in), 27 WE (in), 28 SBEF (out), 29 CINC (out), 30 WAUP (out), 31 DRQ (out), 32 CMR (out), 33 SC128 (in), 34 MR (in), 35 INTRQ (out), 36 SDH0 (out), 37 SDH1 (out), 38 SDH2 (out), 39 DSB2 (out), 40 VCC (power) hidden to VCC

## WD1015
designator U?
footprint DIP-40
pins: 1 WAUP (in), 2 XTAL1 (in), 3 XTAL2 (out), 4 MR (in), 5 TST5 (out), 6 INTFD (out), 7 VSS2 (out), 8 RE (out), 9 TST9 (out), 10 WE (out), 11 LAD (out), 12 D0 (hiz), 13 D1 (hiz), 14 D2 (hiz), 15 D3 (hiz), 16 D4 (hiz), 17 D5 (hiz), 18 D6 (hiz), 19 D7 (hiz), 20 GND (power) hidden to GND, 21 TST21 (out), 22 TST22 (out), 23 TST23 (out), 24 TST24 (out), 25 TST25 (out), 26 VCC2 (out), 27 INTHD (in), 28 HD/~{F} (in), 29 TR00 (in), 30 SBEF (in), 31 TST31 (out), 32 MOM (in), 33 STEP (out), 34 DIR (out), 35 FMO (out), 36 BRDY (out), 37 CORRD (out), 38 ERR (out), 39 DRQFD (in), 40 VCC (power) hidden to VCC

## WD1050
designator U?
footprint JEDECA-68
pins: 1 VCC (power) hidden to VCC, 3 RE (hiz), 4 WE (hiz), 5 CS (in), 6 A2 (in), 7 A1 (in), 8 A0 (in), 10 D0 (hiz), 11 D1 (hiz), 12 D2 (hiz), 13 D3 (hiz), 14 D4 (hiz), 15 D5 (hiz), 16 D6 (hiz), 17 D7 (hiz), 18 D8 (hiz), 19 D9 (hiz), 20 D10 (hiz), 21 D11 (hiz), 22 D12 (hiz), 23 D13 (hiz), 24 D14 (hiz), 25 D15 (hiz), 26 WD (oc), 27 RCLK (in), 28 SCLK (in), 29 RD (in), 30 INDEXP (in), 31 SECTOR (in), 32 USEL (in), 33 URDY (in), 34 UBUSY (in), 35 GND (power) hidden to GND, 36 FAULT (in), 37 SKERR (in), 38 ONCYL (in), 39 WPROT (in), 40 NC(TP) (out), 42 USTAG (out), 43 TAG1 (out), 44 TAG2 (out), 45 TAG3 (out), 46 US0 (out), 47 US1 (out), 48 US2 (out), 49 US3 (out), 50 CP9 (out), 51 CP8 (out), 52 CP7 (out), 53 CP6 (out), 54 CP5 (out), 55 CP4 (out), 56 CP3 (out), 57 CP2 (out), 58 CP1 (out), 59 CP0 (out), 61 NC(TP) (out), 62 BCS (out), 63 BCR (out), 64 BDRQ (out), 65 BRDY (in), 66 INTRQ (out), 67 MR (in), 68 CLK (in)

## WD1100-01
designator U?
footprint DIP-20
pins: 1 CLK (in), 3 BCLR (in), 4 TEST (out), 5 DO0 (hiz), 6 DO1 (hiz), 7 DO2 (hiz), 8 DO3 (hiz), 9 DO4 (hiz), 10 GND (power) hidden to GND, 11 DO5 (hiz), 12 DO6 (hiz), 13 DO7 (hiz), 14 SHFCLK (hiz), 15 BDONE (hiz), 16 DOUT (hiz), 17 ST (in), 18 NRZ (in), 19 EN (in), 20 VCC (power) hidden to VCC

## WD1100-02
designator U?
footprint DIP-20
pins: 1 NRZ (in), 2 SKPEN (in), 3 WCLK (in), 4 WCLK (in), 5 RWC (in), 6 CS (in), 7 DRQCLK (in), 8 INTCLK (in), 10 GND (power) hidden to GND, 11 NOM (out), 12 LATE (out), 13 EARLY (out), 14 DRQ (out), 15 INTRQ (out), 16 MFM (out), 17 MR (in), 18 A1 (in), 19 A0 (in), 20 VCC (power) hidden to VCC

## WD1100-03
designator U?
footprint DIP-20
pins: 1 RCLK (in), 2 DIN (in), 3 RCLK (in), 4 CLKIN (in), 5 DOUT (out), 8 TEST1 (out), 9 ENDET (in), 10 GND (power) hidden to GND, 11 TEST2 (out), 12 DCLK (out), 14 QOUT (out), 15 AMDET (out), 16 AMDET (out), 18 CP (in), 19 RST (in), 20 VCC (power) hidden to VCC

## WD1100-04
designator U?
footprint DIP-20
pins: 1 DIN (in), 2 DOCK (in), 3 SHFCLK (in), 6 CWE (out), 7 DOCE (in), 8 CRCIZ (in), 10 GND (power) hidden to GND, 11 DOUT (out), 12 SKCLK (out), 13 CRCOK (out), 14 WCLK (in), 15 TIMCLK (out), 16 CRCOK (out), 20 VCC (power) hidden to VCC

## WD1100-05
designator U?
footprint DIP-20
pins: 1 D0 (in), 2 D1 (in), 3 D2 (in), 4 D3 (in), 5 D4 (in), 6 D5 (in), 7 D6 (in), 8 D7 (in), 9 SHFCLK (hiz), 10 GND (power) hidden to GND, 11 DCLK (in), 12 WCLK (in), 13 LD (out), 14 SHFCLK (hiz), 15 DOUT (hiz), 16 BDONE (hiz), 17 TEST (out), 19 EN (in), 20 VCC (power) hidden to VCC

## WD1100-06
designator U?
footprint DIP-20
pins: 1 R/~{W} (in), 2 RCP (in), 3 WCP (out), 4 RDAT (in), 5 WDAT (in), 6 SEL (in), 7 ECCIZ (in), 9 ECCEN (out), 10 GND (power) hidden to GND, 11 RWCP (out), 12 BS (io), 13 CSE (out), 14 FBD (out), 15 DOUT (out), 16 EDOUT (out), 17 DCSS (in), 18 RBS (in), 19 WBS (in), 20 VCC (power) hidden to VCC

## WD1100-07
designator U?
footprint DIP-20
pins: 1 WCL1 (in), 2 WCL2 (in), 3 RESET (in), 4 SACEN (in), 5 AMDET (in), 6 TIMCLK (out), 7 RCLK (in), 8 INDEX (in), 9 LINR (in), 10 GND (power) hidden to GND, 11 LINDEX (out), 12 WAIT (out), 13 CSAC (out), 14 AMOUT (out), 15 RBS (out), 16 RCP (out), 17 WAEN (in), 18 CS (in), 19 WCLK (in), 20 VCC (power) hidden to VCC

## WD1100-09
designator U?
footprint DIP-20
pins: 1 DATA (in), 2 REF (in), 3 DIN (in), 4 OSC (in), 5 DRS1 (in), 6 HIFRQ (out), 7 DRS2 (in), 8 DRUN (out), 9 DOUT (out), 10 GND (power) hidden to GND, 11 UP (out), 12 DOWN (out), 13 WDATA (in), 14 DS (out), 15 DRS3 (in), 16 WRITE (in), 17 DRS4 (in), 18 DMR (in), 19 RGATE (in), 20 VCC (power) hidden to VCC

## WD1100-10
designator U?
footprint DIP-20
pins: 1 RD (in), 2 2*DR (in), 3 MR (in), 4 FDCLK2 (out), 5 EAREN (out), 6 NOMEN (out), 7 LATEN (out), 8 RG (in), 9 DOUT (out), 10 GND (power) hidden to GND, 13 EARLY (in), 14 LATE (in), 15 WC (out), 16 FDCLK1 (out), 17 WG (in), 18 WPEN (in), 19 WD (in), 20 VCC (power) hidden to VCC

## WD1100-11
designator U?
footprint DIP-40
pins: 1 DRD1 (in), 2 DRD2 (in), 3 DRD3 (in), 4 DRD4 (in), 5 DRH (out), 6 DRL (out), 7 HD2 (out), 8 HD1 (out), 9 HD0 (out), 10 MR (in), 11 BCS (out), 12 BCR (out), 13 RD (out), 14 BRDY (out), 15 DRUN (out), 16 CS1 (in), 17 WE (in), 18 RE (in), 19 DRADJ (in), 20 GND (power) hidden to GND, 21 RDADJ (in), 22 A21 (in), 23 A11 (in), 24 A01 (in), 25 D0 (hiz), 26 D1 (hiz), 27 D2 (hiz), 28 D3 (hiz), 29 D4 (hiz), 30 D5 (hiz), 31 D6 (hiz), 32 BCLR (in), 33 RCE (out), 34 A5 (out), 35 A4 (out), 36 A3 (out), 37 A2 (out), 38 A1 (out), 39 A0 (out), 40 VCC (power) hidden to VCC

## WD1100-12
designator U?
footprint DIP-20
pins: 1 NRZ (in), 2 SKPEN (in), 3 WCLK (in), 4 WCLK (in), 5 RWC (in), 6 CS (in), 7 DRQCLK (in), 8 INTCLK (in), 9 2*DR (in), 10 GND (power) hidden to GND, 11 NOM (out), 12 LATE (out), 13 EARLY (out), 14 DRQ (out), 15 INTRQ (out), 16 MFM (out), 17 MR (in), 18 A1 (in), 19 A0 (in), 20 VCC (power) hidden to VCC

## WD1100-13
designator U?
footprint DIP-20
pins: 1 ERROR (out), 2 NC, 3 PRESET (in), 4 CS (in), 5 RE (in), 6 WE (in), 7 ECC/~{D} (in), 8 BUSY (out), 9 D6 (hiz), 10 GND (power) hidden to GND, 11 CLK (in), 12 D4 (hiz), 13 D2 (hiz), 14 D0 (hiz), 15 D1 (hiz), 16 D3 (hiz), 17 D5 (hiz), 18 D7 (hiz), 19 LONG (in), 20 VCC (power) hidden to VCC

## WD1100-14
designator U?
footprint DIP-20
pins: 1 DB3 (hiz), 2 DB4 (hiz), 3 DB5 (hiz), 4 DB6 (hiz), 5 DB7 (hiz), 6 RE (in), 7 WE (in), 8 MR (in), 9 DIR (in), 10 GND (power) hidden to GND, 11 S/~{P} (in), 12 SD (hiz), 13 D/~{E} (in), 14 SO/DRQ (out), 15 LP/LD (io), 16 CLK (in), 17 DB0 (hiz), 18 DB1 (hiz), 19 DB2 (hiz), 20 VCC (power) hidden to VCC

## WD1510
designator U?
footprint DIP-28
pins: 1 GND (power) hidden to GND, 2 EMPTY (out), 3 CSA (in), 4 ~{128}/32 (in), 5 MR (in), 6 PA0 (io), 7 PB0 (io), 8 PA1 (io), 9 PB1 (io), 10 PA2 (io), 11 PB2 (io), 12 PA3 (io), 13 PB3 (io), 14 PA4 (io), 15 PB4 (io), 16 VCC (power) hidden to VCC, 17 PA5 (io), 18 PB5 (io), 19 PA6 (io), 20 PB6 (io), 21 PA7 (io), 22 PB7 (io), 23 PA8 (io), 24 PB8 (io), 25 DIR (in), 27 CSB (in), 28 FULL (out)

## WD1511
designator U?
footprint DIP-20
pins: 1 RESET (in), 2 CSA0 (out), 3 CSA1 (out), 4 CSA2 (out), 5 CSA3 (out), 6 CSB0 (out), 7 CSB1 (out), 8 CSB2 (out), 9 CSB3 (out), 10 GND (power) hidden to GND, 11 2/~{4}B (in), 12 2/~{4}A (in), 13 EXSTRO (in), 14 FI/~{O} (in), 15 DIR (in), 16 FULL (in), 17 EMPTY (in), 18 CLKB (in), 19 CLKA (in), 20 VCC (power) hidden to VCC

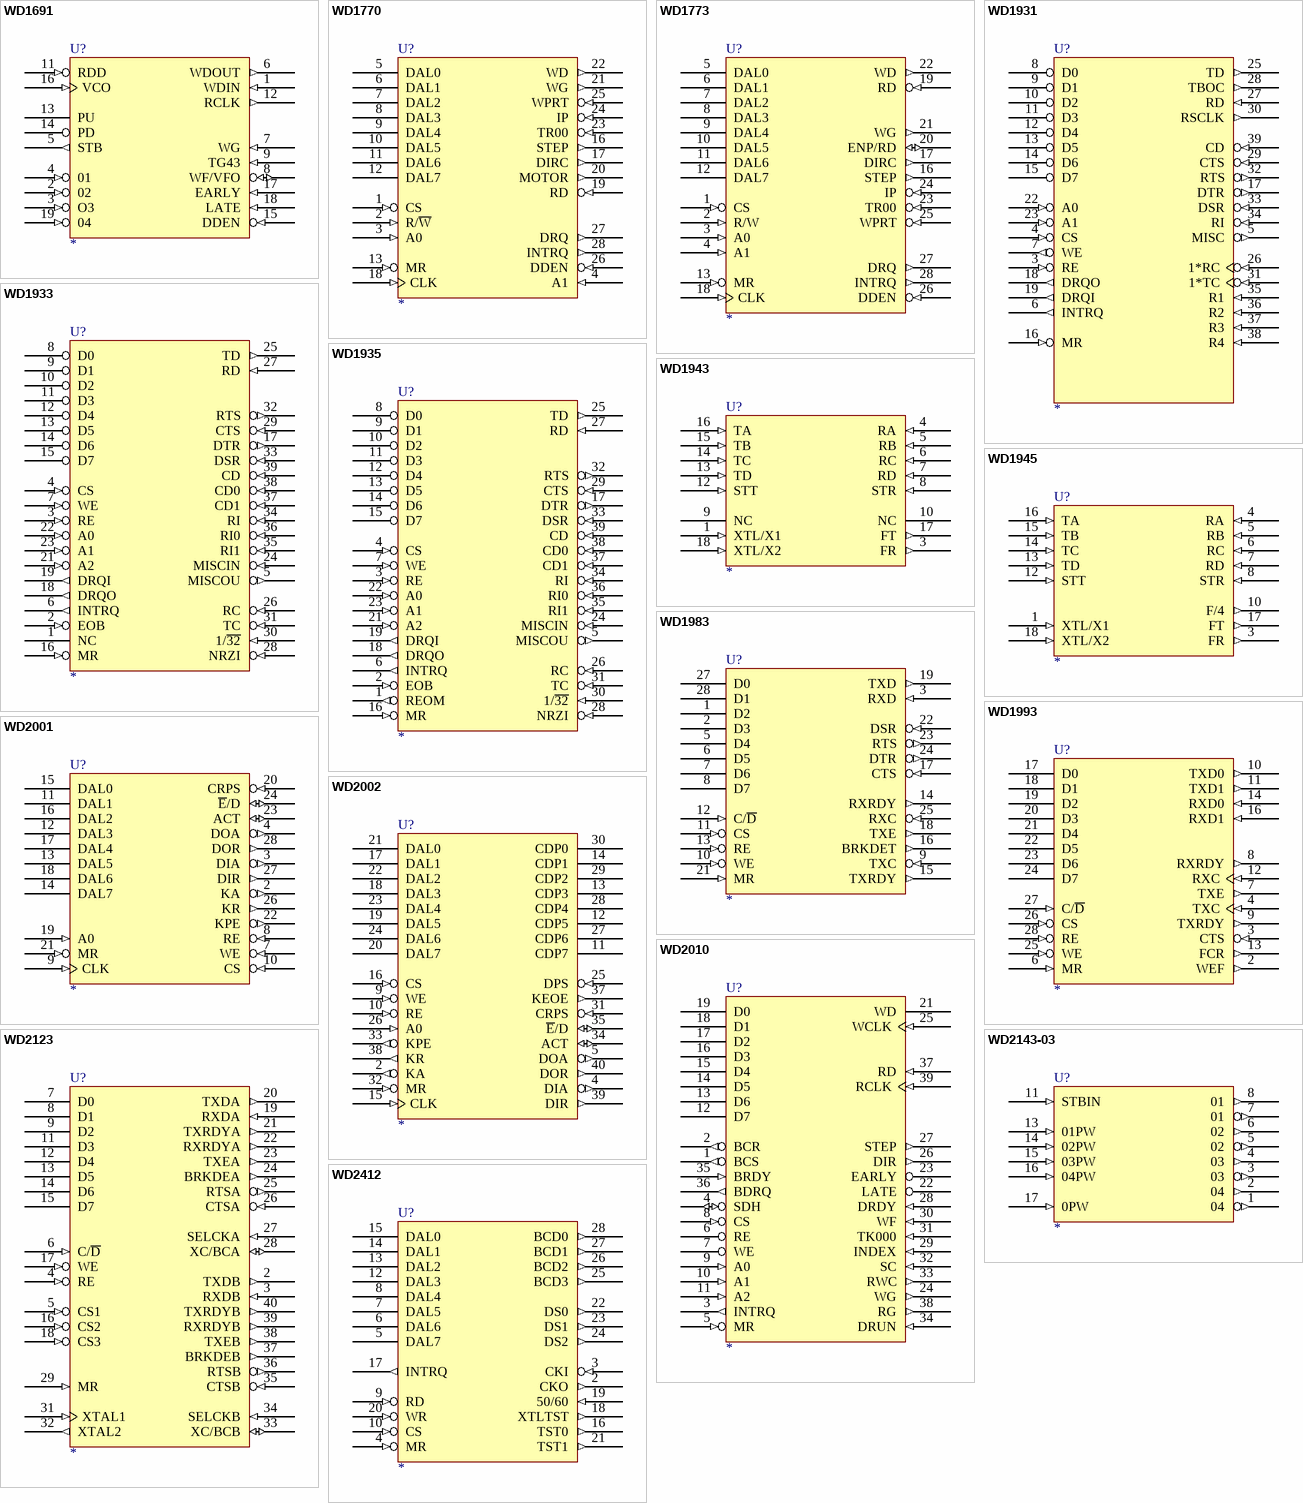
[diagram p54: symbols WD1691 to WD2412]

## WD1691
designator U?
footprint DIP-20
pins: 1 WDIN (in), 2 02 (in), 3 O3 (in), 4 01 (in), 5 STB (out), 6 WDOUT (out), 7 WG (in), 8 WF/VFO (io), 9 TG43 (in), 10 GND (power) hidden to GND, 11 RDD (in), 12 RCLK (out), 13 PU (hiz), 14 PD (hiz), 15 DDEN (in), 16 VCO (in), 17 EARLY (in), 18 LATE (in), 19 04 (in), 20 VCC (power) hidden to VCC

## WD1770
designator U?
footprint DIP-28
pins: 1 CS (in), 2 R/~{W} (in), 3 A0 (in), 4 A1 (in), 5 DAL0 (hiz), 6 DAL1 (hiz), 7 DAL2 (hiz), 8 DAL3 (hiz), 9 DAL4 (hiz), 10 DAL5 (hiz), 11 DAL6 (hiz), 12 DAL7 (hiz), 13 MR (in), 14 GND (power) hidden to GND, 15 VCC (power) hidden to VCC, 16 STEP (out), 17 DIRC (out), 18 CLK (in), 19 RD (in), 20 MOTOR (out), 21 WG (out), 22 WD (out), 23 TR00 (in), 24 IP (in), 25 WPRT (in), 26 DDEN (in), 27 DRQ (out), 28 INTRQ (out)

## WD1773
designator U?
footprint DIP-28
pins: 1 CS (in), 2 R/W (in), 3 A0 (in), 4 A1 (in), 5 DAL0 (hiz), 6 DAL1 (hiz), 7 DAL2 (hiz), 8 DAL3 (hiz), 9 DAL4 (hiz), 10 DAL5 (hiz), 11 DAL6 (hiz), 12 DAL7 (hiz), 13 MR (in), 14 GND (power) hidden to GND, 15 VCC (power) hidden to VCC, 16 STEP (out), 17 DIRC (out), 18 CLK (in), 19 RD (in), 20 ENP/RD (io), 21 WG (out), 22 WD (out), 23 TR00 (in), 24 IP (in), 25 WPRT (in), 26 DDEN (in), 27 DRQ (out), 28 INTRQ (out)

## WD1931
designator U?
footprint DIP-40
pins: 3 RE (in), 4 CS (in), 5 MISC (out), 6 INTRQ (out), 7 WE (out), 8 D0 (hiz), 9 D1 (hiz), 10 D2 (hiz), 11 D3 (hiz), 12 D4 (hiz), 13 D5 (hiz), 14 D6 (hiz), 15 D7 (hiz), 16 MR (in), 17 DTR (out), 18 DRQO (out), 19 DRQI (out), 20 GND (power) hidden to GND, 22 A0 (in), 23 A1 (in), 24 +12 (power) hidden to +12, 25 TD (out), 26 1*RC (in), 27 RD (in), 28 TBOC (out), 29 CTS (in), 30 RSCLK (out), 31 1*TC (in), 32 RTS (out), 33 DSR (in), 34 RI (in), 35 R1 (in), 36 R2 (in), 37 R3 (in), 38 R4 (in), 39 CD (in), 40 VCC (power) hidden to VCC

## WD1933
designator U?
footprint DIP-40
pins: 1 NC, 2 EOB (in), 3 RE (in), 4 CS (in), 5 MISCOU (out), 6 INTRQ (out), 7 WE (in), 8 D0 (hiz), 9 D1 (hiz), 10 D2 (hiz), 11 D3 (hiz), 12 D4 (hiz), 13 D5 (hiz), 14 D6 (hiz), 15 D7 (hiz), 16 MR (in), 17 DTR (out), 18 DRQO (out), 19 DRQI (out), 20 GND (power) hidden to GND, 21 A2 (in), 22 A0 (in), 23 A1 (in), 24 MISCIN (in), 25 TD (out), 26 RC (in), 27 RD (in), 28 NRZI (in), 29 CTS (in), 30 1/~{32} (in), 31 TC (in), 32 RTS (out), 33 DSR (in), 34 RI (in), 35 RI1 (in), 36 RI0 (in), 37 CD1 (in), 38 CD0 (in), 39 CD (in), 40 VCC (power) hidden to VCC

## WD1935
designator U?
footprint DIP-40
pins: 1 REOM (out), 2 EOB (in), 3 RE (in), 4 CS (in), 5 MISCOU (out), 6 INTRQ (out), 7 WE (in), 8 D0 (hiz), 9 D1 (hiz), 10 D2 (hiz), 11 D3 (hiz), 12 D4 (hiz), 13 D5 (hiz), 14 D6 (hiz), 15 D7 (hiz), 16 MR (in), 17 DTR (out), 18 DRQO (out), 19 DRQI (out), 20 GND (power) hidden to GND, 21 A2 (in), 22 A0 (in), 23 A1 (in), 24 MISCIN (in), 25 TD (out), 26 RC (in), 27 RD (in), 28 NRZI (in), 29 CTS (in), 30 1/~{32} (in), 31 TC (in), 32 RTS (out), 33 DSR (in), 34 RI (in), 35 RI1 (in), 36 RI0 (in), 37 CD1 (in), 38 CD0 (in), 39 CD (in), 40 VCC (power) hidden to VCC

## WD1943
designator U?
footprint DIP-18
pins: 1 XTL/X1 (in), 2 VCC (power) hidden to VCC, 3 FR (out), 4 RA (in), 5 RB (in), 6 RC (in), 7 RD (in), 8 STR (in), 9 NC, 10 NC, 11 GND (power) hidden to GND, 12 STT (in), 13 TD (in), 14 TC (in), 15 TB (in), 16 TA (in), 17 FT (out), 18 XTL/X2 (in)

## WD1945
designator U?
footprint DIP-18
pins: 1 XTL/X1 (in), 2 VCC (power) hidden to VCC, 3 FR (out), 4 RA (in), 5 RB (in), 6 RC (in), 7 RD (in), 8 STR (in), 10 F/4 (out), 11 GND (power) hidden to GND, 12 STT (in), 13 TD (in), 14 TC (in), 15 TB (in), 16 TA (in), 17 FT (out), 18 XTL/X2 (in)

## WD1983
designator U?
footprint DIP-28
pins: 1 D2 (hiz), 2 D3 (hiz), 3 RXD (in), 4 GND (power) hidden to GND, 5 D4 (hiz), 6 D5 (hiz), 7 D6 (hiz), 8 D7 (hiz), 9 TXC (in), 10 WE (in), 11 CS (in), 12 C/~{D} (in), 13 RE (in), 14 RXRDY (out), 15 TXRDY (out), 16 BRKDET (out), 17 CTS (in), 18 TXE (out), 19 TXD (out), 21 MR (in), 22 DSR (in), 23 RTS (out), 24 DTR (out), 25 RXC (in), 26 VCC (power) hidden to VCC, 27 D0 (hiz), 28 D1 (hiz)

## WD1993
designator U?
footprint DIP-28
pins: 1 GND (power) hidden to GND, 2 WEF (out), 3 CTS (in), 4 TXC (in), 6 MR (in), 7 TXE (out), 8 RXRDY (out), 9 TXRDY (out), 10 TXD0 (out), 11 TXD1 (out), 12 RXC (in), 13 FCR (out), 14 RXD0 (in), 15 VCC (power) hidden to VCC, 16 RXD1 (in), 17 D0 (hiz), 18 D1 (hiz), 19 D2 (hiz), 20 D3 (hiz), 21 D4 (hiz), 22 D5 (hiz), 23 D6 (hiz), 24 D7 (hiz), 25 WE (in), 26 CS (in), 27 C/~{D} (in), 28 RE (in)

## WD2001
designator U?
footprint DIP-40
pins: 2 KA (out), 3 DIA (out), 4 DOA (out), 5 VCC (power) hidden to VCC, 6 +12 (power) hidden to +12, 7 WE (in), 8 RE (in), 9 CLK (in), 10 CS (in), 11 DAL1 (hiz), 12 DAL3 (hiz), 13 DAL5 (hiz), 14 DAL7 (hiz), 15 DAL0 (hiz), 16 DAL2 (hiz), 17 DAL4 (hiz), 18 DAL6 (hiz), 19 A0 (in), 20 CRPS (in), 21 MR (in), 22 KPE (out), 23 ACT (io), 24 ~{E}/D (io), 25 GND (power) hidden to GND, 26 KR (out), 27 DIR (out), 28 DOR (out)

## WD2002
designator U?
footprint DIP-40
pins: 2 KA (out), 4 DIA (out), 5 DOA (out), 7 VCC (power) hidden to VCC, 8 +12 (power) hidden to +12, 9 WE (in), 10 RE (in), 11 CDP7 (hiz), 12 CDP5 (hiz), 13 CDP3 (hiz), 14 CDP1 (hiz), 15 CLK (in), 16 CS (in), 17 DAL1 (hiz), 18 DAL3 (hiz), 19 DAL5 (hiz), 20 DAL7 (hiz), 21 DAL0 (hiz), 22 DAL2 (hiz), 23 DAL4 (hiz), 24 DAL6 (hiz), 25 DPS (in), 26 A0 (in), 27 CDP6 (hiz), 28 CDP4 (hiz), 29 CDP2 (hiz), 30 CDP0 (hiz), 31 CRPS (in), 32 MR (in), 33 KPE (out), 34 ACT (io), 35 ~{E}/D (io), 36 GND (power) hidden to GND, 37 KEOE (out), 38 KR (out), 39 DIR (out), 40 DOR (out)

## WD2010
designator U?
footprint DIP-40
pins: 1 BCS (out), 2 BCR (out), 3 INTRQ (out), 4 SDH (io), 5 MR (in), 6 RE (hiz), 7 WE (hiz), 8 CS (in), 9 A0 (in), 10 A1 (in), 11 A2 (in), 12 D7 (hiz), 13 D6 (hiz), 14 D5 (hiz), 15 D4 (hiz), 16 D3 (hiz), 17 D2 (hiz), 18 D1 (hiz), 19 D0 (hiz), 20 GND (power) hidden to GND, 21 WD (oc), 22 LATE (oc), 23 EARLY (oc), 24 WG (out), 25 WCLK (in), 26 DIR (out), 27 STEP (out), 28 DRDY (in), 29 INDEX (in), 30 WF (in), 31 TK000 (in), 32 SC (in), 33 RWC (out), 34 DRUN (in), 35 BRDY (in), 36 BDRQ (out), 37 RD (in), 38 RG (out), 39 RCLK (in), 40 VCC (power) hidden to VCC

## WD2123
designator U?
footprint DIP-40
pins: 2 TXDB (out), 3 RXDB (in), 4 RE (in), 5 CS1 (in), 6 C/~{D} (in), 7 D0 (hiz), 8 D1 (hiz), 9 D2 (hiz), 10 GND (power) hidden to GND, 11 D3 (hiz), 12 D4 (hiz), 13 D5 (hiz), 14 D6 (hiz), 15 D7 (hiz), 16 CS2 (in), 17 WE (in), 18 CS3 (in), 19 RXDA (in), 20 TXDA (out), 21 TXRDYA (out), 22 RXRDYA (out), 23 TXEA (out), 24 BRKDEA (out), 25 RTSA (out), 26 CTSA (in), 27 SELCKA (in), 28 XC/BCA (io), 29 MR (in), 30 VCC (power) hidden to VCC, 31 XTAL1 (in), 32 XTAL2 (out), 33 XC/BCB (io), 34 SELCKB (in), 35 CTSB (in), 36 RTSB (out), 37 BRKDEB (out), 38 TXEB (out), 39 RXRDYB (out), 40 TXRDYB (out)

## WD2143-03
designator U?
footprint DIP-18
pins: 1 04 (out), 2 04 (out), 3 03 (out), 4 03 (out), 5 02 (out), 6 02 (out), 7 01 (out), 8 01 (out), 9 GND (power) hidden to GND, 11 STBIN (in), 13 01PW (in), 14 02PW (in), 15 03PW (in), 16 04PW (in), 17 0PW (in), 18 VCC (power) hidden to VCC

## WD2412
designator U?
footprint DIP-28
pins: 1 GND (power) hidden to GND, 2 CKO (out), 3 CKI (in), 4 MR (in), 5 DAL7 (hiz), 6 DAL6 (hiz), 7 DAL5 (hiz), 8 DAL4 (hiz), 9 RD (in), 10 CS (in), 11 VCC (power) hidden to VCC, 12 DAL3 (hiz), 13 DAL2 (hiz), 14 DAL1 (hiz), 15 DAL0 (hiz), 16 TST0 (out), 17 INTRQ (out), 18 XTLTST (out), 19 50/60 (in), 20 WR (in), 21 TST1 (out), 22 DS0 (out), 23 DS1 (out), 24 DS2 (out), 25 BCD3 (out), 26 BCD2 (out), 27 BCD1 (out), 28 BCD0 (out)

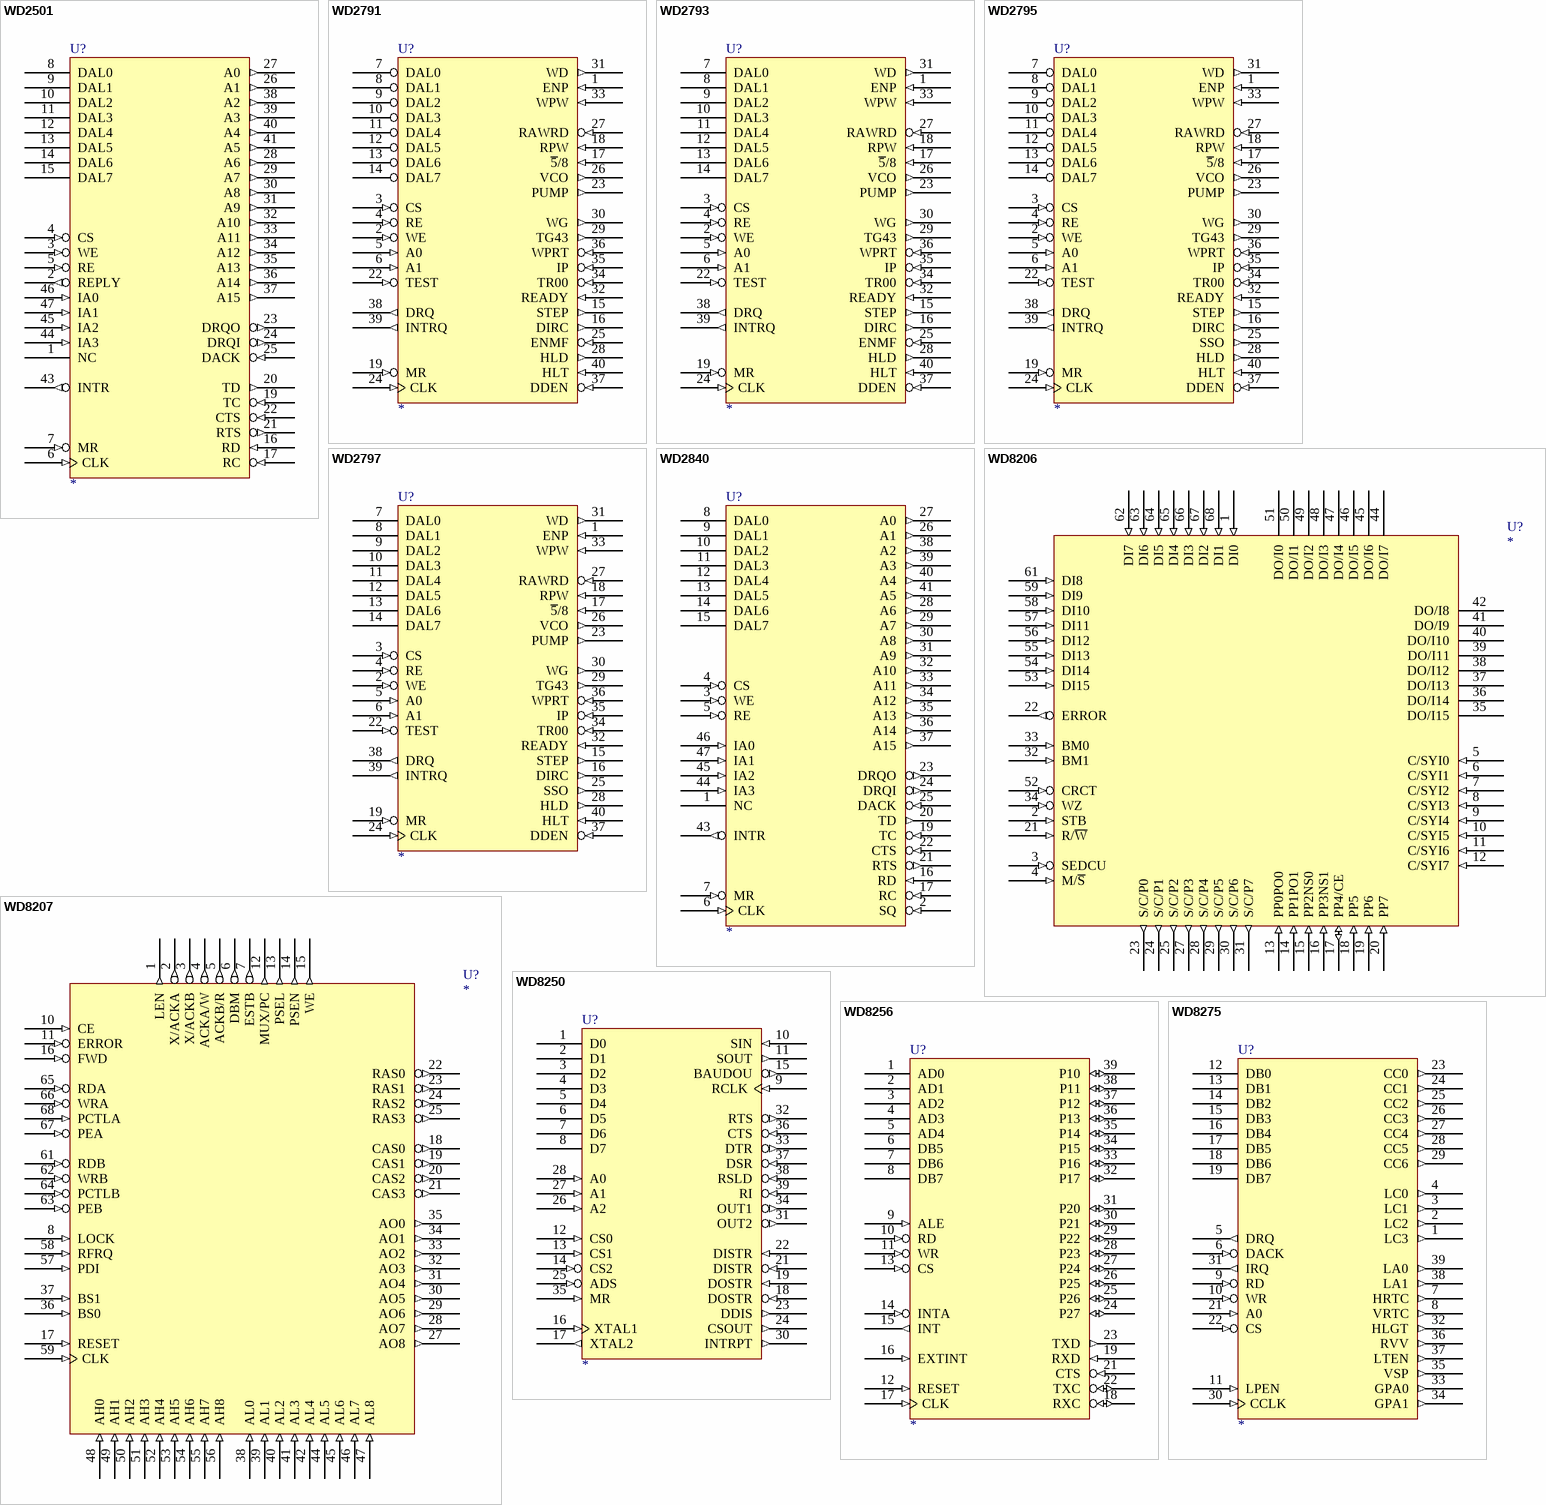
[diagram p55: symbols WD2501 to WD8275]

## WD2501
designator U?
footprint DIP-48
pins: 1 NC, 2 REPLY (out), 3 WE (in), 4 CS (in), 5 RE (in), 6 CLK (in), 7 MR (in), 8 DAL0 (hiz), 9 DAL1 (hiz), 10 DAL2 (hiz), 11 DAL3 (hiz), 12 DAL4 (hiz), 13 DAL5 (hiz), 14 DAL6 (hiz), 15 DAL7 (hiz), 16 RD (in), 17 RC (in), 18 GND (power) hidden to GND, 19 TC (in), 20 TD (out), 21 RTS (out), 22 CTS (in), 23 DRQO (out), 24 DRQI (out), 25 DACK (in), 26 A1 (out), 27 A0 (out), 28 A6 (out), 29 A7 (out), 30 A8 (out), 31 A9 (out), 32 A10 (out), 33 A11 (out), 34 A12 (out), 35 A13 (out), 36 A14 (out), 37 A15 (out), 38 A2 (out), 39 A3 (out), 40 A4 (out), 41 A5 (out), 42 +12 (power) hidden to +12, 43 INTR (out), 44 IA3 (in), 45 IA2 (in), 46 IA0 (in), 47 IA1 (in), 48 VCC (power) hidden to VCC

## WD2791
designator U?
footprint DIP-40
pins: 1 ENP (in), 2 WE (in), 3 CS (in), 4 RE (in), 5 A0 (in), 6 A1 (in), 7 DAL0 (hiz), 8 DAL1 (hiz), 9 DAL2 (hiz), 10 DAL3 (hiz), 11 DAL4 (hiz), 12 DAL5 (hiz), 13 DAL6 (hiz), 14 DAL7 (hiz), 15 STEP (out), 16 DIRC (out), 17 ~{5}/8 (in), 18 RPW (in), 19 MR (in), 20 GND (power) hidden to GND, 21 VCC (power) hidden to VCC, 22 TEST (in), 23 PUMP (out), 24 CLK (in), 25 ENMF (in), 26 VCO (out), 27 RAWRD (in), 28 HLD (out), 29 TG43 (out), 30 WG (out), 31 WD (out), 32 READY (in), 33 WPW (in), 34 TR00 (in), 35 IP (in), 36 WPRT (in), 37 DDEN (in), 38 DRQ (out), 39 INTRQ (out), 40 HLT (in)

## WD2793
designator U?
footprint DIP-40
pins: 1 ENP (in), 2 WE (in), 3 CS (in), 4 RE (in), 5 A0 (in), 6 A1 (in), 7 DAL0 (hiz), 8 DAL1 (hiz), 9 DAL2 (hiz), 10 DAL3 (hiz), 11 DAL4 (hiz), 12 DAL5 (hiz), 13 DAL6 (hiz), 14 DAL7 (hiz), 15 STEP (out), 16 DIRC (out), 17 ~{5}/8 (in), 18 RPW (in), 19 MR (in), 20 GND (power) hidden to GND, 21 VCC (power) hidden to VCC, 22 TEST (in), 23 PUMP (out), 24 CLK (in), 25 ENMF (in), 26 VCO (out), 27 RAWRD (in), 28 HLD (out), 29 TG43 (out), 30 WG (out), 31 WD (out), 32 READY (in), 33 WPW (in), 34 TR00 (in), 35 IP (in), 36 WPRT (in), 37 DDEN (in), 38 DRQ (out), 39 INTRQ (out), 40 HLT (in)

## WD2795
designator U?
footprint DIP-40
pins: 1 ENP (in), 2 WE (in), 3 CS (in), 4 RE (in), 5 A0 (in), 6 A1 (in), 7 DAL0 (hiz), 8 DAL1 (hiz), 9 DAL2 (hiz), 10 DAL3 (hiz), 11 DAL4 (hiz), 12 DAL5 (hiz), 13 DAL6 (hiz), 14 DAL7 (hiz), 15 STEP (out), 16 DIRC (out), 17 ~{5}/8 (in), 18 RPW (in), 19 MR (in), 20 GND (power) hidden to GND, 21 VCC (power) hidden to VCC, 22 TEST (in), 23 PUMP (out), 24 CLK (in), 25 SSO (out), 26 VCO (out), 27 RAWRD (in), 28 HLD (out), 29 TG43 (out), 30 WG (out), 31 WD (out), 32 READY (in), 33 WPW (in), 34 TR00 (in), 35 IP (in), 36 WPRT (in), 37 DDEN (in), 38 DRQ (out), 39 INTRQ (out), 40 HLT (in)

## WD2797
designator U?
footprint DIP-40
pins: 1 ENP (in), 2 WE (in), 3 CS (in), 4 RE (in), 5 A0 (in), 6 A1 (in), 7 DAL0 (hiz), 8 DAL1 (hiz), 9 DAL2 (hiz), 10 DAL3 (hiz), 11 DAL4 (hiz), 12 DAL5 (hiz), 13 DAL6 (hiz), 14 DAL7 (hiz), 15 STEP (out), 16 DIRC (out), 17 ~{5}/8 (in), 18 RPW (in), 19 MR (in), 20 GND (power) hidden to GND, 21 VCC (power) hidden to VCC, 22 TEST (in), 23 PUMP (out), 24 CLK (in), 25 SSO (out), 26 VCO (out), 27 RAWRD (in), 28 HLD (out), 29 TG43 (out), 30 WG (out), 31 WD (out), 32 READY (in), 33 WPW (in), 34 TR00 (in), 35 IP (in), 36 WPRT (in), 37 DDEN (in), 38 DRQ (out), 39 INTRQ (out), 40 HLT (in)

## WD2840
designator U?
footprint DIP-48
pins: 1 NC, 2 SQ (in), 3 WE (in), 4 CS (in), 5 RE (in), 6 CLK (in), 7 MR (in), 8 DAL0 (hiz), 9 DAL1 (hiz), 10 DAL2 (hiz), 11 DAL3 (hiz), 12 DAL4 (hiz), 13 DAL5 (hiz), 14 DAL6 (hiz), 15 DAL7 (hiz), 16 RD (in), 17 RC (in), 18 GND (power) hidden to GND, 19 TC (in), 20 TD (out), 21 RTS (out), 22 CTS (in), 23 DRQO (out), 24 DRQI (out), 25 DACK (in), 26 A1 (out), 27 A0 (out), 28 A6 (out), 29 A7 (out), 30 A8 (out), 31 A9 (out), 32 A10 (out), 33 A11 (out), 34 A12 (out), 35 A13 (out), 36 A14 (out), 37 A15 (out), 38 A2 (out), 39 A3 (out), 40 A4 (out), 41 A5 (out), 42 +12 (power) hidden to +12, 43 INTR (out), 44 IA3 (in), 45 IA2 (in), 46 IA0 (in), 47 IA1 (in), 48 VCC (power) hidden to VCC

## WD8206
designator U?
footprint JEDECA-68
pins: 1 DI0 (in), 2 STB (in), 3 SEDCU (in), 4 M/~{S} (in), 5 C/SYI0 (in), 6 C/SYI1 (in), 7 C/SYI2 (in), 8 C/SYI3 (in), 9 C/SYI4 (in), 10 C/SYI5 (in), 11 C/SYI6 (in), 12 C/SYI7 (in), 13 PP0PO0 (in), 14 PP1PO1 (in), 15 PP2NS0 (in), 16 PP3NS1 (in), 17 PP4/CE (io), 18 PP5 (in), 19 PP6 (in), 20 PP7 (in), 21 R/~{W} (in), 22 ERROR (out), 23 S/C/P0 (out), 24 S/C/P1 (out), 25 S/C/P2 (out), 26 GND (power) hidden to GND, 27 S/C/P3 (out), 28 S/C/P4 (out), 29 S/C/P5 (out), 30 S/C/P6 (out), 31 S/C/P7 (out), 32 BM1 (in), 33 BM0 (in), 34 WZ (in), 35 DO/I15 (hiz), 36 DO/I14 (hiz), 37 DO/I13 (hiz), 38 DO/I12 (hiz), 39 DO/I11 (hiz), 40 DO/I10 (hiz), 41 DO/I9 (hiz), 42 DO/I8 (hiz), 43 GND (power) hidden to GND, 44 DO/I7 (hiz), 45 DO/I6 (hiz), 46 DO/I5 (hiz), 47 DO/I4 (hiz), 48 DO/I3 (hiz), 49 DO/I2 (hiz), 50 DO/I1 (hiz), 51 DO/I0 (hiz), 52 CRCT (in), 53 DI15 (in), 54 DI14 (in), 55 DI13 (in), 56 DI12 (in), 57 DI11 (in), 58 DI10 (in), 59 DI9 (in), 60 VCC (power) hidden to VCC, 61 DI8 (in), 62 DI7 (in), 63 DI6 (in), 64 DI5 (in), 65 DI4 (in), 66 DI3 (in), 67 DI2 (in), 68 DI1 (in)